# Altium schematic symbol library CircuitStudioSchematic.Lib.SchLib: 311 symbols (part 1 of 2)
Pins are listed as number, name and electrical type; pins without a type are passive.

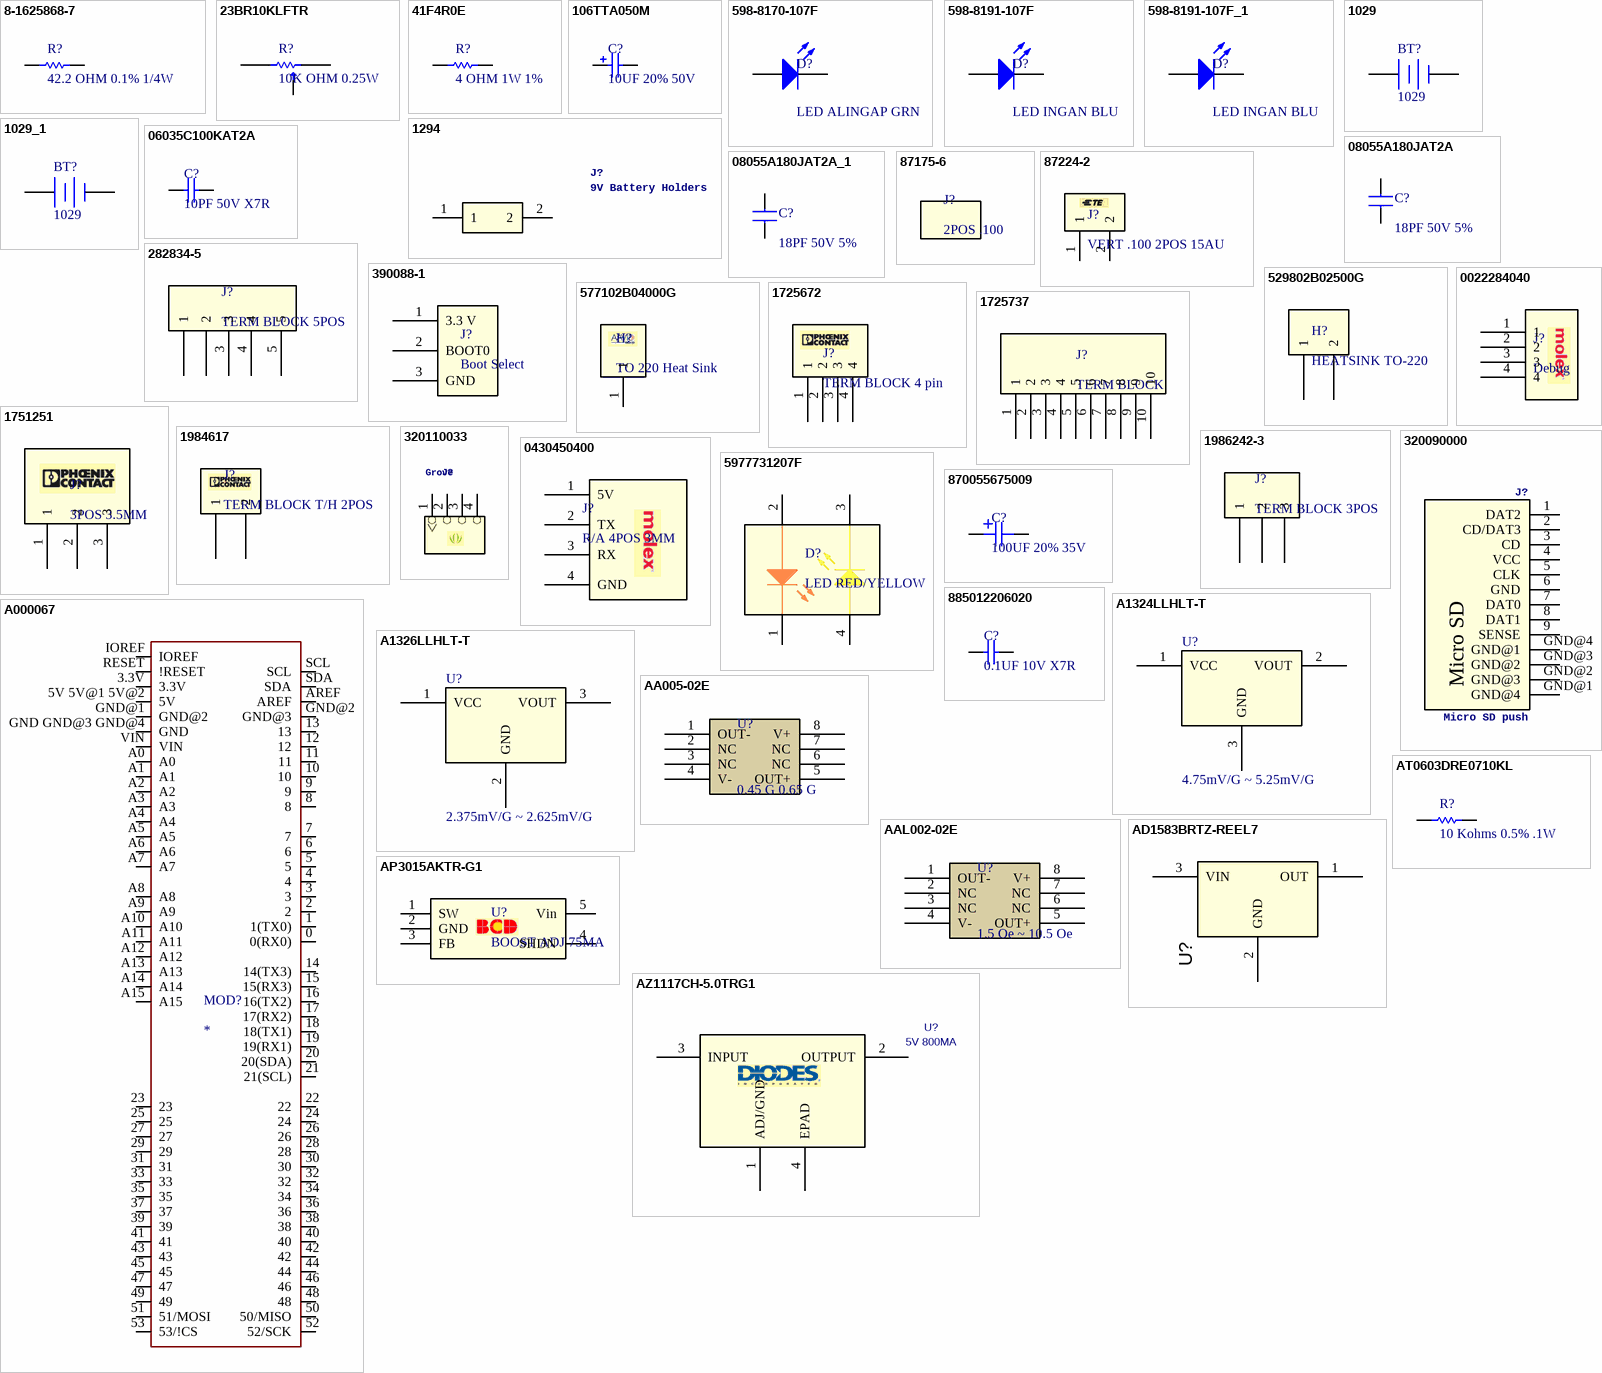
[diagram p0: symbols 8-1625868-7 to AZ1117CH-5.0TRG1]

## 8-1625868-7
designator R?, comment 42.2 OHM 0.1% 1/4W
RES SMD 42.2 OHM 0.1% 1/4W 0805; Part Number: 8-1625868-7; Manufacturer: TE Connectivity Passive Product
footprint R0805
pins: 1, 2

## 23BR10KLFTR
designator R?, comment 10K OHM 0.25W
TRIMMER 10K OHM 0.25W GW TOP ADJ; Manufacturer: TT Electronics/BI; Number: 23BR10KLFTR
footprint 5.00mm x 4.50mm x 2.70mm (Gull Wing Pot)
pins: 1, 2, 3

## 41F4R0E
designator R?, comment 4 OHM 1W 1%
RES 4 OHM 1W 1% AXIAL; Manufacturer: Ohmite; Number: 41F4R0E
footprint 3.20mm x 11.10mm resistor (3.20mm x 11.10mm Through Hole)
pins: 1, 2

## 106TTA050M
designator C?, comment 10UF 20% 50V
CAP ALUM 10UF 20% 50V AXIAL; Manufacturer: Illinois Capacitor; Number: 106TTA050M
footprint 5.00mm x 13.00mm electrolytic cap (5.00mm x 13.00mm AXIAL)
pins: 1 Anode, 2 Cathode

## 598-8170-107F
designator D?, comment LED ALINGAP GRN
LED ALINGAP GRN CLEAR 0805 SMD; Part Number: 598-8170-107F; Manufacturer: Dialight; HelpURL: C:\altium files\Datasheets\dialightdiodes.pdf
simulation model ZENER (Diode)
signal-integrity model D Zener
footprint D0805 (LED)
pins: 1 A, 2 K

## 598-8191-107F
designator D?, comment LED INGAN BLU
LED INGAN BLU WATER CLR 0805 SMD; Part Number: 598-8191-107F; Manufacturer: Dialight; HelpURL: C:\altium files\Datasheets\MDEI5980805.pdf
simulation model ZENER (Diode)
signal-integrity model D Zener
footprint Model Name (Footprint not found)
footprint Model Name (Footprint not found)
footprint D0805 (LED)
pins: 1 A, 2 K

## 598-8191-107F_1
designator D?, comment LED INGAN BLU
LED INGAN BLU WATER CLR 0805 SMD; Part Number: 598-8191-107F; Manufacturer: Dialight; HelpURL: C:\altium files\Datasheets\MDEI5980805.pdf
simulation model ZENER (Diode)
signal-integrity model D Zener
footprint Model Name (Footprint not found)
footprint Model Name (Footprint not found)
footprint D0805 (LED)
pins: 1 A, 2 K

## 1029
designator BT?
HOLDER BATTERY FOR LITHIUM 2/3 A; Manufacturer: Keystone Electronics; Battery Part Number: BR-2/3AGN; Battery Manufacturer: Panasonic - BSG; Holder Part Number: 1029LC; Part Number: 1029; Value: LITHIUM 2/3 A; HelpURL: C:\altium files\Datasheets\1029.pdf; Holder Manufacturer: Keystone Electronics
footprint 1092
pins: 1 +, 2 -

## 1029_1
designator BT?, comment 1029
HOLDER BATTERY FOR LITHIUM 2/3 A; Manufacturer: Keystone Electronics; Battery Part Number: BR-2/3AGN; Battery Manufacturer: Panasonic - BSG; Holder Part Number: 1029LC; Part Number: 1029; Value: LITHIUM 2/3 A; HelpURL: C:\altium files\Datasheets\1029.pdf; Holder Manufacturer: Keystone Electronics
footprint 1092
pins: 1 +, 2 -

## 1294
designator J?, comment 9V Battery Holders
BATTERY HOLDER 9V PC PIN; Manufacturer: Keystone Electronics; Number: 1294
footprint 1294
footprint 1294
footprint Model Name (Footprint not found)
footprint 1294
pins: 1, 2

## 06035C100KAT2A
designator C?, comment 10PF 50V X7R
CAP CER 10PF 50V X7R 0603; Manufacturer: AVX Corporation; Number: 06035C100KAT2A
footprint SMD-0603C
pins: 1, 2

## 08055A180JAT2A
designator C?, comment 18PF 50V 5%
CAP CER 18PF 50V 5% NP0 0805; Manufacturer: AVX Corporation; Part Number: 08055A180JAT2A; Value: 18PF 50V 5%
simulation model CAP
footprint C0805
pins: 1, 2

## 08055A180JAT2A_1
designator C?, comment 18PF 50V 5%
CAP CER 18PF 50V 5% NP0 0805; Manufacturer: AVX Corporation; Part Number: 08055A180JAT2A; Value: 18PF 50V 5%
simulation model CAP
footprint C0805
pins: 1, 2

## 87175-6
designator J?, comment 2POS .100
CONN HOUSING 2POS .100 LOCKING; Manufacturer: TE Connectivity AMP Connectors; Number: 87175-6
footprint CONN HOUSING 2POS (TE Locking housing)

## 87224-2
designator J?, comment VERT .100 2POS 15AU
CONN HEADER VERT .100 2POS 15AU; Manufacturer: TE Connectivity AMP Connectors; Number: 87224-2
footprint Jumper .100 2 pin (TE Conn Jumper)
pins: 1, 2

## 282834-5
designator J?, comment TERM BLOCK 5POS
TERM BLOCK 5POS SIDE ENT 2.54MM; Manufacturer: TE Connectivity AMP Connectors; Number: 282834-5
footprint TE Connectivity  2.54mm Pos5 (150V 16 10A)
pins: 1, 2, 3, 4, 5

## 390088-1
designator J?, comment Boot Select
CONN HEADER VERT 3POS 2.54MM; Part Number: 826936-3; Manufacturer: TE Connectivity AMP Connectors; Accessory Number: 390088-1; Accessory Manufactor: TE Connectivity AMP Connectors
footprint AMPMODU Mod II Con3
pins: 1 3.3 V, 2 BOOT0, 3 GND

## 529802B02500G
designator H?, comment HEATSINK TO-220
HEATSINK TO-220 W/PINS 1.5"TALL; Manufacturer: Aavid, Thermal Division of Boyd Corporation; Number: 529802B02500G
footprint HEATSINK TO-220 - duplicate (Drain Conection 10 W)
pins: 1, 2

## 577102B04000G
designator H?, comment TO 220 Heat Sink
HEATSINK TO-220 W/TAB .375"; Manufacturer: Aavid, Thermal Division of Boyd Corporation; Number: 577102B04000G
footprint HEATSINK TO-220 (HEATSINK TO-220 W/TAB .375")
pins: 1

## 1725672
designator J?, comment TERM BLOCK 4 pin
CONN TERM BLOCK 2.54MM 4POS; Manufacturer: Phoenix Contact; Number: 1725672
footprint Ter 25.4 4 pin (Phoenix)
pins: 1, 2, 3, 4

## 1725737
designator J?, comment TERM BLOCK
CONN TERM BLOCK 2.54MM 10POS; Manufacturer: Phoenix Contact; Number: 1725737
footprint CONN TERM BLOCK 2.54MM 10POS
pins: 1, 2, 3, 4, 5, 6, 7, 8, 9, 10

## 1751251
designator J?, comment 3POS 3.5MM
CONN TERM BLOCK 3POS 3.5MM; Manufacturer: Phoenix Contact; Number: 1751251
footprint Phoenix 3.5MM 3 pin (TERM BLOCK 3POS 3.5MM)
pins: 1, 2, 3

## 1984617
designator J?, comment TERM BLOCK T/H 2POS
CONN TERM BLOCK T/H 2POS 3.5MM; Manufacturer: Phoenix Contact; Number: 1984617
footprint Phoenix  3.5 Pos2 (160V 16 awg)
pins: 1, 2

## 1986242-3
designator J?, comment TERM BLOCK 3POS
TERM BLOCK PWR 3POS 15MM; Manufacturer: TE Connectivity AMP Connectors; Number: 1986242-3
footprint TE Connectivity  15MM Pos3 (150V 16 10A)
pins: 1, 2, 3

## 0022284040
designator J?, comment Debug
CONN HEADER VERT 4POS 2.54MM; Manufacturer: Molex; Number: 0022284040
footprint 4 pin 2.54 mm Breakaway (Molex Verticle 4 pin Debug header)
pins: 1, 2, 3, 4

## 320090000
designator J?, comment Micro SD push
MICRO SD; Manufacturer: Suntech; Number: 320090000; Alter Number: ST-TF-003A
footprint MICROSD_PP
pins: 1 DAT2, 2 CD/DAT3, 3 CD, 4 VCC, 5 CLK, 6 GND, 7 DAT0, 8 DAT1, 9 SENSE, GND@1 GND@4, GND@2 GND@3, GND@3 GND@2, GND@4 GND@1
text: Micro SD

## 320110033
designator J?, comment Grove
GROVE 2MM 4PIN CONN 10PACK; Manufacturer: Seeed Technology Co., Ltd; Number: 320110033; Alter Number: 110990030
footprint HW4-2.0 - Straight (Seed Grove 4 pin  Straight)
pins: 1, 2, 3, 4

## 0430450400
designator J?, comment R/A 4POS 3MM
CONN HEADER R/A 4POS 3MM; Part Number: 0430450400; Manufacturer: Molex; Mate Part Number: 0430250408
footprint R/A 4POS Molex (CONN HEADER R/A 4POS 3MM)
pins: 1 5V, 2 TX, 3 RX, 4 GND

## 5977731207F
designator D?, comment LED RED/YELLOW
LED RED/YELLOW CLEAR 4PLCC SMD; Part Number: 5977731207F; Manufacturer: Dialight
footprint PLCC-4
pins: 1 A1, 2 K1, 3 K2, 4 A2

## 870055675009
designator C?, comment 100UF 20% 35V
CAP ALUM POLY T/H; Manufacturer: Wurth Electronics Inc.; Number: 870055675009
footprint WCAP-PTHR Radial, Can (CAP ALUM POLY 100UF 20% 35V T/H)
pins: 1 Anode, 2 Cathode

## 885012206020
designator C?, comment 0.1UF 10V X7R
CAP CER 0.1UF 10V X7R 0603; Manufacturer: Wurth Electronics Inc.; Number: 885012206020
footprint SMD-0603C
pins: 1, 2

## A000067
designator MOD?
BOARD MCU MEGA2560; Manufacturer: Arduino; Number: A000067
footprint Mega 2560
pins: 0 0(RX0), 1 1(TX0), 2, 3, 3.3V, 4, 5, 5V 5V@1 5V@2 5V, 6, 7, 8, 9, 10, 11, 12, 13, 14 14(TX3), 15 15(RX3), 16 16(TX2), 17 17(RX2), 18 18(TX1), 19 19(RX1), 20 20(SDA), 21 21(SCL), 22, 23, 24, 25, 26, 27, 28, 29, 30, 31, 32, 33, 34, 35, 36, 37, 38, 39, 40, 41, 42, 43, 44, 45, 46, 47, 48, 49, 50 50/MISO, 51 51/MOSI, 52 52/SCK, 53 53/!CS, A0, A1, A2, A3, A4, A5, A6, A7, A8, A9, A10, A11, A12, A13, A14, A15, AREF, GND GND@3 GND@4 GND, GND@1 GND@2, GND@2 GND@3, IOREF, RESET !RESET, SCL, SDA, VIN

## A1324LLHLT-T
designator U?, comment 4.75mV/G ~ 5.25mV/G
IC SENSOR HALL EFFECT SOT23W; Part Number: A1324LLHLT-T; Manufacturer: Allegro Microsystems Inc; HelpURL: C:\altium files\Datasheets\A1324-5-6.pdf
footprint SOT-23
pins: 1 VCC, 2 VOUT, 3 GND

## A1326LLHLT-T
designator U?, comment 2.375mV/G ~ 2.625mV/G
IC SENSOR HALL EFFECT SOT23W; Part Number: A1326LLHLT-T; Manufacturer: Allegro Microsystems Inc; HelpURL: C:\altium files\Datasheets\A1324-5-6.pdf
footprint SOT-23
pins: 1 VCC, 2 GND, 3 VOUT

## AA005-02E
designator U?, comment 0.45 G 0.65 G
SENSORS MAGNETIC FIELD 8SOIC; Manufacturer: NVE Corp/Sensor Products; Part Number: AA005-02E; HelpURL: C:\altium files\Datasheets\AAL002.pdf
footprint SOIC-8 (.150 chasis)
pins: 1 OUT-, 2 NC, 3 NC, 4 V-, 5 OUT+, 6 NC, 7 NC, 8 V+

## AAL002-02E
designator U?, comment 1.5 Oe ~ 10.5 Oe
SENSORS MAGNETIC FIELD 8SOIC; Manufacturer: NVE Corp/Sensor Products; Part Number: AAL002-02E; HelpURL: C:\altium files\Datasheets\AAL002.pdf
footprint SOIC-8 (.150 chasis)
pins: 1 OUT-, 2 NC, 3 NC, 4 V-, 5 OUT+, 6 NC, 7 NC, 8 V+

## AD1583BRTZ-REEL7
designator U?, comment SERIES PREC 3V  (value not drawn)
IC VREF SERIES PREC 3V SOT-23-3; Part Number: AD1583BRTZ-REEL7; Manufacturer: Analog Devices Inc; HelpURL: C:\altium files\Datasheets\AD1582_1583_1584_1585.pdf
footprint SOT-23
pins: 1 OUT, 2 GND, 3 VIN

## AP3015AKTR-G1
designator U?, comment BOOST ADJ 75MA
IC REG BOOST ADJ 75MA SOT25; Manufacturer: Diodes Incorporated; Number: AP3015AKTR-G1
footprint SOT25 (sot 23-5 Diodes Inc)
pins: 1 SW, 2 GND, 3 FB, 4 SHDN, 5 Vin

## AT0603DRE0710KL
designator R?, comment 10 Kohms 0.5% .1W
Thin Film Resistors 10 Kohms 0.5% Tol. AEC-Q200; Manufacturer: Yageo; Number: AT0603DRE0710KL
footprint SMD-0603-RES
pins: 1, 2

## AZ1117CH-5.0TRG1
designator U?, comment 5V 800MA
IC REG LINEAR 5V 800MA SOT223; Manufacturer: Diodes Incorporated; Number: AZ1117CH-3.3TRG1
footprint SOT-223
pins: 1 ADJ/GND, 2 OUTPUT, 3 INPUT, 4 EPAD

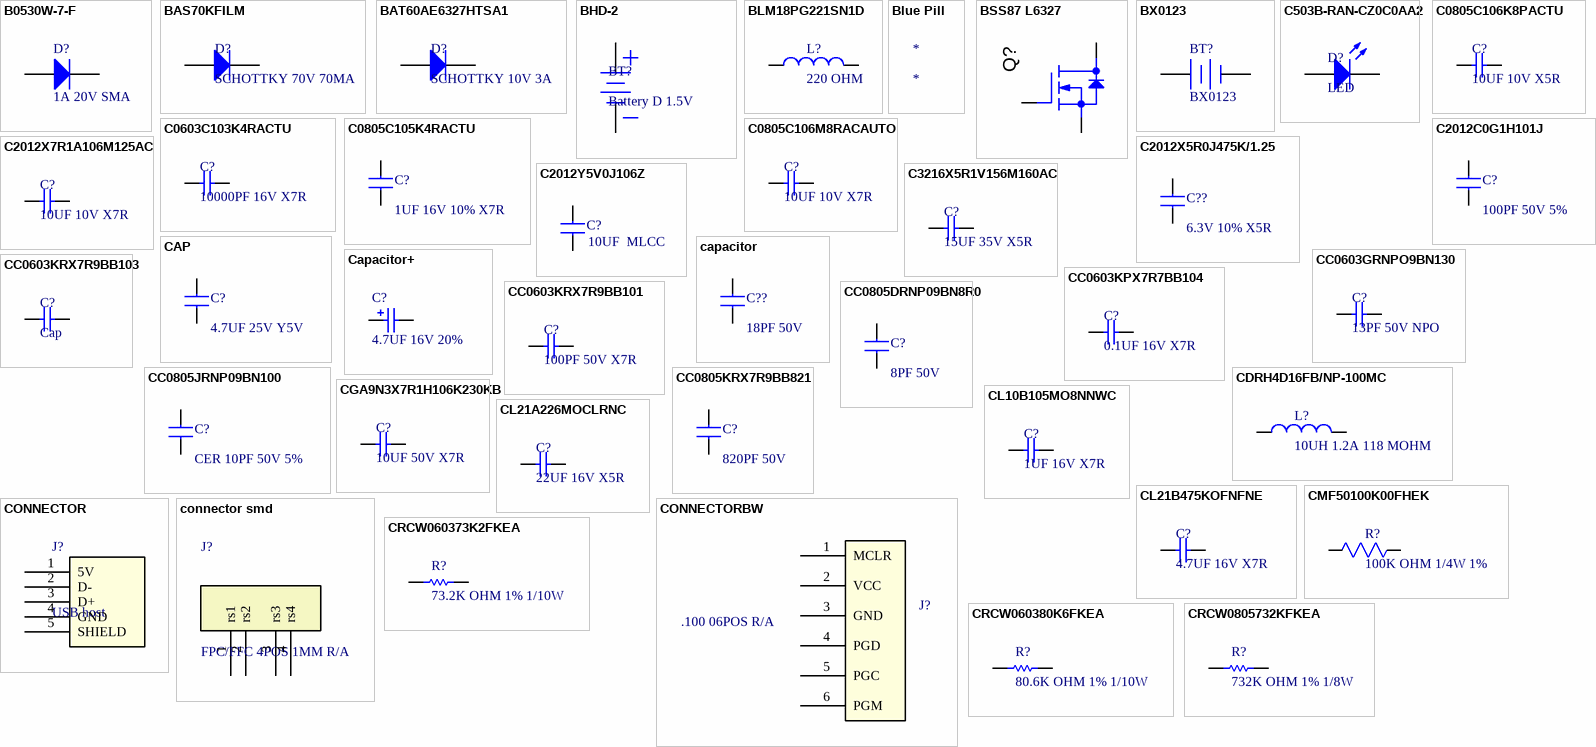
[diagram p1: symbols B0530W-7-F to CRCW0805732KFKEA]

## B0530W-7-F
designator D?, comment 1A 20V SMA
DIODE SCHOTTKY 1A 20V SMA; Part Number: B0530W-7-F; Manufacturer: Diodes Inc; HelpURL: C:\altium files\Datasheets\22190b.pdf
footprint SOD-123
pins: 1 A, 2 K

## BAS70KFILM
designator D?, comment SCHOTTKY 70V 70MA
DIODE SCHOTTKY 70V 70MA SOD523; Part Number: BAS70KFILM; Manufacturer: STMicroelectronics
footprint SOD523
pins: 1 A, 2 K

## BAT60AE6327HTSA1
designator D?, comment SCHOTTKY 10V 3A
DIODE SCHOTTKY 10V 3A SOD323-2; Part Number: BAT60AE6327HTSA1; Manufacturer: Infineon Technologies
footprint SOD323-2
pins: 1 A, 2 K

## BHD-2
designator BT?, comment Battery D 1.5V
BATTERY HOLDER D PC PIN; Manufacturer: MPD (Memory Protection Devices); Part Number: BHD-2
footprint BATT HOLDER D (MPD)
pins: 1 +, 2 -

## BLM18PG221SN1D
designator L?, comment 220 OHM
FERRITE BEAD 220 OHM 0603 1LN; Part Number: BLM18PG221SN1D; Manufacturer: Murata Electronics North America
footprint L0603
pins: 1, 2

## Blue Pill
designator *
footprint Blue Pill Import

## BSS87 L6327
designator Q?, comment 30V 2A  (value not drawn)
MOSFET N-CH 240V 260MA SOT-89; Part Number: BSS87 L6327; Manufacturer: Infineon Technologies; HelpURL: C:\altium files\Datasheets\BSS87_Rev1.3.pdf
footprint Sot 89
pins: 1 GATE, 2 DRAIN, 3 SOURCE

## BX0123
designator BT?
HOLDER BATT 1 CELL CR123A; Manufacturer: Bulgin; Part Number: BX0123; Value: CR123A; HelpURL: C:\altium files\Datasheets\BattHolders_2010.pdf
footprint BX0123
pins: 1 +, 2 -

## C503B-RAN-CZ0C0AA2
designator D?, comment LED
LED RED CLEAR 5MM ROUND T/H; Manufacturer: Cree Inc.; Number: C503B-RAN-CZ0C0AA2
footprint C503B-RAN 5mm LED (C503B-RAN Cree LED)
pins: 1 A, 2 K

## C0603C103K4RACTU
designator C?, comment 10000PF 16V X7R
CAP CER 10000PF 16V X7R 0603; Manufacturer: KEMET; Number: C0603C103K4RACTU
footprint SMD-0603C
pins: 1, 2

## C0805C105K4RACTU
designator C?, comment 1UF 16V 10% X7R
CAP CER 1UF 16V 10% X7R 0805; Manufacturer: Kemet; Part Number: C0805C105K4RACTU; Value: 1UF 16V 10% X7R
simulation model CAP
footprint C0805
pins: 1, 2

## C0805C106K8PACTU
designator C?, comment 10UF 10V X5R
CAP CER 10UF 10V X5R 0805; Part Number: C0805C106K8PACTU; Manufacturer: KEMET
footprint C0805
pins: 1, 2

## C0805C106M8RACAUTO
designator C?, comment 10UF 10V X7R
CAP CER 10UF 10V X7R 0805; Manufacturer: KEMET; Number: C0805C106M8RACAUTO
footprint SMD-0805C
pins: 1, 2

## C2012C0G1H101J
designator C?, comment 100PF 50V 5%
CAP CER 100PF 50V 5% NP0 0805; Manufacturer: TDK Corporation; Part Number: C2012C0G1H101J; Value: 100PF 50V 5%
simulation model CAP
footprint C0805
pins: 1, 2

## C2012X5R0J475K/1.25
designator C??, comment 6.3V 10% X5R
CAP CER 4.7UF 6.3V 10% X5R 0805; Manufacturer: Taiyo Yuden; Part Number: C2012X5R0J475K/1.25; Value: 6.3V 10% X5R
simulation model CAP
footprint C0805
pins: 1, 2

## C2012X7R1A106M125AC
designator C?, comment 10UF 10V X7R
CAP CER 10UF 10V X7R 0805; Manufacturer: TDK Corporation; Number: C2012X7R1A106M125AC
footprint SMD-0805C - tdk
pins: 1, 2

## C2012Y5V0J106Z
designator C?, comment 10UF  MLCC
CAP CER 10UF 6.3V Y5V 0805; Manufacturer: TDK Corporation; Part Number: C2012Y5V0J106Z; Value: 10UF  MLCC
simulation model CAP
footprint Model Name (Footprint not found)
footprint C0805
pins: 1, 2

## C3216X5R1V156M160AC
designator C?, comment 15UF 35V X5R
CAP CER 15UF 35V X5R 1206; Part Number: C3216X5R1V156M160AC; Manufacturer: TDK Corporation
footprint SMD-1206C
pins: 1, 2

## CAP
designator C?, comment 4.7UF 25V Y5V
CAP CER 4.7UF 25V Y5V 0805; Manufacturer: TDK Corporation; Part Number: C2012Y5V1E475Z; Value: 4.7UF 25V Y5V
simulation model CAP
footprint C0805
pins: 1, 2

## capacitor
designator C??, comment 18PF 50V
CAP CER 18PF 50V 5% NP0 0805; Manufacturer: Kemet; Part Number: C0805C180J5GACTU; Value: 18PF 50V
simulation model CAP
footprint C0805
pins: 1, 2

## Capacitor+
designator C?, comment 4.7UF 16V 20%
CAP ALUM 4.7UF 16V 20% SMD; Part Number: EEF-CD1C4R7R; Manufacturer: Panasonic - ECG; Value: 4.7UF 16V 20%
simulation model CAP (Capacitor)
footprint 2917 (7343 Metric)
pins: 1, 2
1 alternate drawing of the same symbol

## CC0603GRNPO9BN130
designator C?, comment 13PF 50V NPO
CAP CER 13PF 50V NPO 0603; Part Number: CC0603GRNPO9BN130; Manufacturer: Yageo
footprint C0603
pins: 1, 2

## CC0603KPX7R7BB104
designator C?, comment 0.1UF 16V X7R
CAP CER 0.1UF 16V X7R 0603; Part Number: CC0603KPX7R7BB104; Manufacturer: Yageo
footprint C0603
pins: 1, 2

## CC0603KRX7R9BB101
designator C?, comment 100PF 50V X7R
CAP CER 100PF 50V X7R 0603; Part Number: CC0603KRX7R9BB101; Manufacturer: Yageo
footprint C0603
pins: 1, 2

## CC0603KRX7R9BB103
designator C?, comment Cap
CAP CER 10000PF 50V X7R 0603; Part Number: CC0603KRX7R9BB103; Manufacturer: Yageo
footprint C0603
pins: 1, 2

## CC0805DRNP09BN8R0
designator C?, comment 8PF 50V
CAP CER 8PF 50V NP0 0805; Manufacturer: Yageo; Part Number: CC0805DRNP09BN8R0; Value: 8PF 50V
simulation model CAP
footprint C0805
pins: 1, 2

## CC0805JRNP09BN100
designator C?, comment CER 10PF 50V 5%
CAP CER 10PF 50V 5% NP0 0805; Manufacturer: Yageo; Part Number: CC0805JRNP09BN100; Value: CER 10PF 50V 5%
simulation model CAP
footprint C0805
pins: 1, 2

## CC0805KRX7R9BB821
designator C?, comment 820PF 50V
CAP CER 820PF 50V 10% X7R 0805; Manufacturer: Yageo; Part Number: CC0805KRX7R9BB821; Value: 820PF 50V
simulation model CAP
footprint C0805
pins: 1, 2

## CDRH4D16FB/NP-100MC
designator L?, comment 10UH 1.2A 118 MOHM
FIXED IND 10UH 1.2A 118 MOHM SMD; Manufacturer: Sumida America Components Inc.; Number: CDRH4D16FB/NP-100MC
footprint SMD CDRH
pins: 1, 2

## CGA9N3X7R1H106K230KB
designator C?, comment 10UF 50V X7R
CAP CER 10UF 50V X7R 2220; Manufacturer: TDK Corporation; Number: CGA9N3X7R1H106K230KB
footprint 2220 cap (TDK)
pins: 1, 2

## CL10B105MO8NNWC
designator C?, comment 1UF 16V X7R
CAP CER 1UF 16V X7R 0603; Manufacturer: Samsung Electro-Mechanics; Number: CL10B105MO8NNWC
footprint SMD-0603C
pins: 1, 2

## CL21A226MOCLRNC
designator C?, comment 22UF 16V X5R
CAP CER 22UF 16V X5R 0805; Manufacturer: Samsung Electro-Mechanics; Number: CL21A226MOCLRNC
footprint SMD-0805C
pins: 1, 2

## CL21B475KOFNFNE
designator C?, comment 4.7UF 16V X7R
CAP CER 4.7UF 16V X7R 0805; Manufacturer: Samsung Electro-Mechanics; Number: CL21B475KOFNFNE
footprint SMD-0805C
pins: 1, 2

## CMF50100K00FHEK
designator R?, comment 100K OHM 1/4W 1%
RES 100K OHM 1/4W 1% AXIAL; Manufacturer: Vishay Dale; Number: CMF50100K00FHEK
footprint 1.65mm x 3.81mm resistor (1/4W resistor through hole)
pins: 1, 2

## CONNECTOR
designator J?, comment USB host
CONN RCPT MICRO USB AB SMD R/A; Manufacturer: Hirose Electric Co Ltd; Part Number: ZX62-AB-5PA(11); HelpURL: C:\altium files\Datasheets\e24200011.pdf
footprint micro AB
pins: 1 5V, 2 D-, 3 D+, 4 GND, 5 SHIELD

## connector smd
designator J?, comment FPC/FFC 4POS 1MM R/A
CONN FPC/FFC 4POS 1MM R/A SMD; Part Number: SFW4R-3STE1LF; Manufacturer: FCI; HelpURL: C:\altium files\Datasheets\sfw34lf.pdf
footprint SFW4R-3STE1LF (TOUCH SCREEN CON)
pins: 1 rs1, 2 rs2, 3 rs3, 4 rs4

## CONNECTORBW
designator J?, comment .100 06POS R/A
CONN HEADR BRKWAY .100 06POS R/A; Manufacturer: TE Connectivity; Part Number: 9-146308-0-03; ORDER TOO: 5-102393-1; Value: .100 06POS R/A
pins: 1 MCLR, 2 VCC, 3 GND, 4 PGD, 5 PGC, 6 PGM

## CRCW060373K2FKEA
designator R?, comment 73.2K OHM 1% 1/10W
RES SMD 73.2K OHM 1% 1/10W 0603; Manufacturer: Vishay Dale; Number: CRCW060373K2FKEA
footprint SMD-0603-RES
pins: 1, 2

## CRCW060380K6FKEA
designator R?, comment 80.6K OHM 1% 1/10W
RES SMD 80.6K OHM 1% 1/10W 0603; Manufacturer: Vishay Dale; Number: CRCW060380K6FKEA
footprint SMD-0603-RES
pins: 1, 2

## CRCW0805732KFKEA
designator R?, comment 732K OHM 1% 1/8W
RES SMD 732K OHM 1% 1/8W 0805; Part Number: CRCW0805732KFKEA; Manufacturer: Vishay Dale
footprint R0805
pins: 1, 2

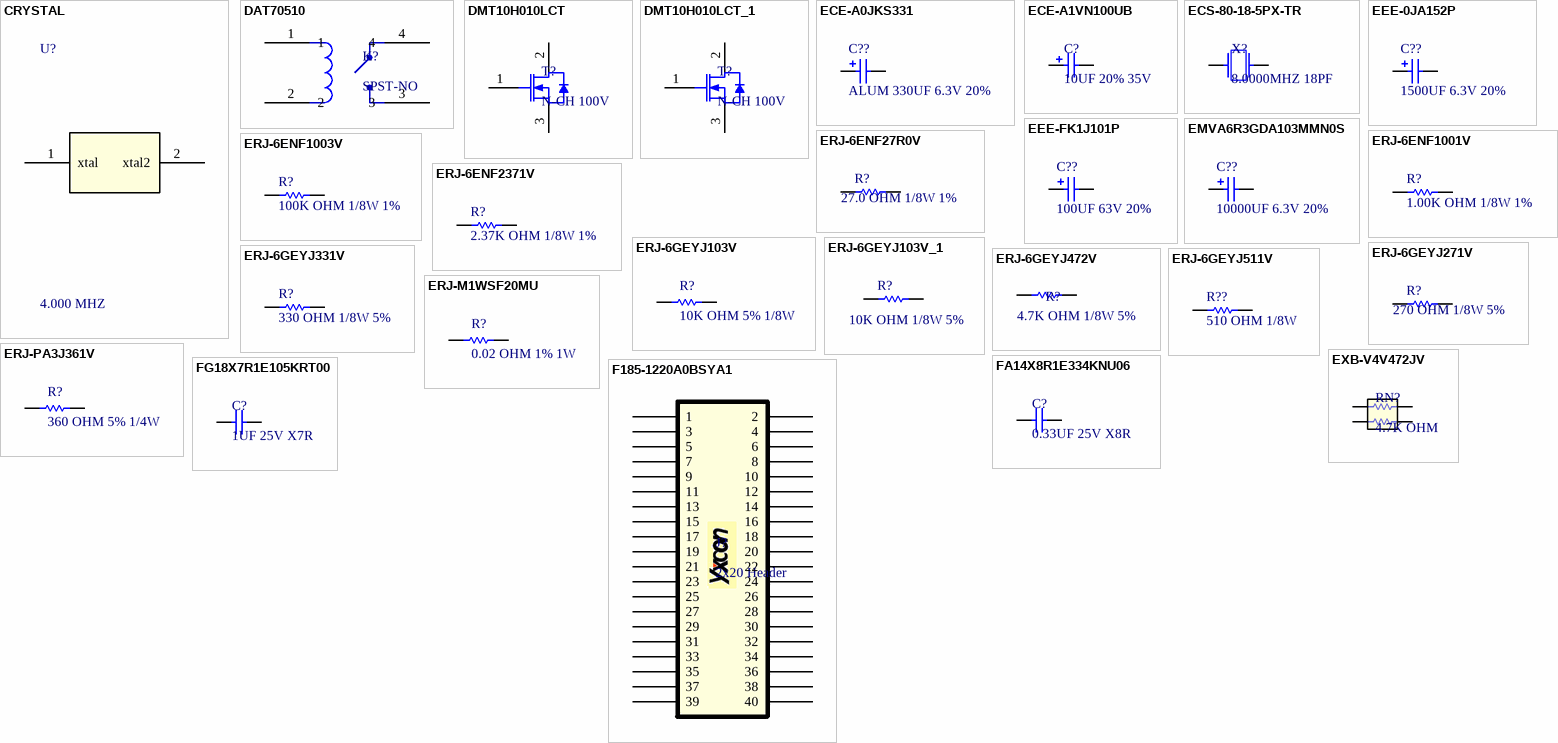
[diagram p2: symbols CRYSTAL to FG18X7R1E105KRT00]

## CRYSTAL
designator U?, comment 4.000 MHZ
CRYSTAL 4.000 MHZ 18PF SMD; Part Number: ABLS-4.000MHZ-B4-T; Manufacturer: Abracon Corporation; HelpURL: C:\altium files\Datasheets\abls.pdf
footprint SMD QUARTZ (0.449" L x 0.189" W)
pins: 1 xtal, 2 xtal2

## DAT70510
designator K?, comment SPST-NO
1 Form A SPST-NO 5V; Manufacturer: Cynergy 3; Number: DAT70510
footprint Model Name (Footprint not found)
footprint A Form 1 SPST-NO - Cynergy 3 (Reed Relay, 1 Form A SPST-NO)
pins: 1, 2, 3, 4

## DMT10H010LCT
designator T?, comment N-CH 100V
MOSFET N-CH 100V TO220AB; Manufacturer: Diodes Incorporated; Number: DMT10H010LCT
footprint Model Name (Footprint not found)
footprint TO-220AB (TO-220-3)
pins: 1 GATE, 2 DRAIN, 3 SOURCE

## DMT10H010LCT_1
designator T?, comment N-CH 100V
MOSFET N-CH 100V TO220AB; Manufacturer: Diodes Incorporated; Number: DMT10H010LCT
footprint Model Name (Footprint not found)
footprint TO-220AB (TO-220-3)
pins: 1 GATE, 2 DRAIN, 3 SOURCE

## ECE-A0JKS331
designator C??, comment ALUM 330UF 6.3V 20%
CAP ALUM 330UF 6.3V 20% RADIAL; Part Number: ECE-A0JKS331; Manufacturer: Panasonic - ECG; Value: ALUM 330UF 6.3V 20%
simulation model CAP (Capacitor)
signal-integrity model Cap Pol
footprint 5x8x2.5 cap
pins: 1, 2
1 alternate drawing of the same symbol

## ECE-A1VN100UB
designator C?, comment 10UF 20% 35V
CAP ALUM 10UF 20% 35V RADIAL; Manufacturer: Panasonic Electronic Components; Number: ECE-A1VN100UB
footprint Model Name (Footprint not found)
footprint 5.00mm x 12.00mm electrolytic cap (5.00mm x 12.00mm AXIAL)
pins: 1 Anode, 2 Cathode

## ECS-80-18-5PX-TR
designator X?, comment 8.0000MHZ 18PF
CRYSTAL 8.0000MHZ 18PF SMD; Part Number: ECS-80-18-5PX-TR; Manufacturer: ECS Inc.
footprint XTAL_ECS-80-18-5PX-TR
pins: 1, 2

## EEE-0JA152P
designator C??, comment 1500UF 6.3V 20%
CAP ALUM 1500UF 6.3V 20% SMD; Part Number: EEE-0JA152P; Manufacturer: Panasonic - ECG; Value: 1500UF 6.3V 20%
simulation model CAP (Capacitor)
signal-integrity model Cap Pol
footprint Panasonic EEE Size F
pins: 1, 2
1 alternate drawing of the same symbol

## EEE-FK1J101P
designator C??, comment 100UF 63V 20%
CAP ALUM 100UF 63V 20% SMD; Part Number: EEE-FK1J101P; Manufacturer: Panasonic - ECG; Value: 100UF 63V 20%
simulation model CAP (Capacitor)
signal-integrity model Cap Pol
footprint Panasonic EEE Size F
pins: 1, 2
1 alternate drawing of the same symbol

## EMVA6R3GDA103MMN0S
designator C??, comment 10000UF 6.3V 20%
CAP ALUM 10000UF 6.3V 20% SMD; Part Number: EMVA6R3GDA103MMN0S; Manufacturer: United Chemi-Con; HelpURL: C:\altium files\Datasheets\al-mva-e-111201.pdf; Value: 10000UF 6.3V 20%
simulation model CAP (Capacitor)
signal-integrity model Cap Pol
footprint MN0
pins: 1, 2
1 alternate drawing of the same symbol

## ERJ-6ENF27R0V
designator R?, comment 27.0 OHM 1/8W 1%
RES 27.0 OHM 1/8W 1% 0805 SMD; Part Number: ERJ-6ENF27R0V; Manufacturer: Panasonic - ECG; Value: 27.0 OHM 1/8W 1%
simulation model RESISTOR (Resistor)
signal-integrity model Res
footprint R0805
pins: 1, 2

## ERJ-6ENF1001V
designator R?, comment 1.00K OHM 1/8W 1%
RES 1.00K OHM 1/8W 1% 0805 SMD; Part Number: ERJ-6ENF1001V; Manufacturer: Panasonic - ECG; Value: 1.00K OHM 1/8W 1%
simulation model RESISTOR (Resistor)
signal-integrity model Res
footprint R0805
pins: 1, 2

## ERJ-6ENF1003V
designator R?, comment 100K OHM 1/8W 1%
RES 100K OHM 1/8W 1% 0805 SMD; Part Number: ERJ-6ENF1002V; Manufacturer: Panasonic - ECG; Value: 100K OHM 1/8W 1%
simulation model RESISTOR (Resistor)
signal-integrity model Res
footprint R0805
pins: 1, 2

## ERJ-6ENF2371V
designator R?, comment 2.37K OHM 1/8W 1%
RES 2.37K OHM 1/8W 1% 0805 SMD; Part Number: ERJ-6ENF2371V; Manufacturer: Panasonic - ECG; Value: 2.37K OHM 1/8W 1%
simulation model RESISTOR (Resistor)
signal-integrity model Res
footprint R0805
pins: 1, 2

## ERJ-6GEYJ103V
designator R?, comment 10K OHM 5% 1/8W
RES SMD 10K OHM 5% 1/8W 0805; Manufacturer: Panasonic Electronic Components; Number: ERJ-6GEYJ103V
footprint SMD-0805-RES
pins: 1, 2

## ERJ-6GEYJ103V_1
designator R?, comment value 10K OHM 1/8W 5%  (hidden comment: RES 10K OHM 1/8W 5%)
RES 10K OHM 1/8W 5% 0805 SMD; Part Number: ERJ-6GEYJ103V; Manufacturer: Panasonic - ECG; Siemens Part Number: PCR08048-001
simulation model RESISTOR (Resistor)
signal-integrity model Res
footprint R0805
pins: 1, 2

## ERJ-6GEYJ271V
designator R?, comment 270 OHM 1/8W 5%
Part Number: ERJ-6GEYJ271V; Manufacturer: Panasonic - ECG; Value: 270 OHM 1/8W 5%
simulation model RESISTOR (Resistor)
signal-integrity model Res
footprint R0805
pins: 1, 2

## ERJ-6GEYJ331V
designator R?, comment 330 OHM 1/8W 5%
RES 330 OHM 1/8W 5% 0805 SMD; Part Number: ERJ-6GEYJ331V; Manufacturer: Panasonic - ECG; Value: 330 OHM 1/8W 5%
simulation model RESISTOR (Resistor)
signal-integrity model Res
footprint R0805
pins: 1, 2

## ERJ-6GEYJ472V
designator R?, comment 4.7K OHM 1/8W 5%
RES 4.7K OHM 1/8W 5% 0805 SMD; Part Number: ERJ-6GEYJ472V; Manufacturer: Panasonic - ECG; Value: 4.7K OHM 1/8W 5%
simulation model RESISTOR (Resistor)
signal-integrity model Res
footprint Model Name (Footprint not found)
footprint R0805
pins: 1, 2

## ERJ-6GEYJ511V
designator R??, comment 510 OHM 1/8W
RES 510 OHM 1/8W 5% 0805 SMD; Part Number: ERJ-6GEYJ511V; Manufacturer: Panasonic - ECG; Value: 510 OHM 1/8W
simulation model RESISTOR (Resistor)
signal-integrity model Res
footprint R0805
pins: 1, 2

## ERJ-M1WSF20MU
designator R?, comment 0.02 OHM 1% 1W
RES 0.02 OHM 1% 1W 2512; Part Number: ERJ-M1WSF20MU; Manufacturer: Panasonic Electronic Components
footprint SMD-2512-RES
pins: 1, 2

## ERJ-PA3J361V
designator R?, comment 360 OHM 5% 1/4W
RES SMD 360 OHM 5% 1/4W 0603; Part Number: ERJ-PA3J361V; Manufacturer: Panasonic Electronic Components
footprint R0603
pins: 1, 2

## EXB-V4V472JV
designator RN?, comment 4.7K OHM
RES ARRAY 2 RES 4.7K OHM 0606; Manufacturer: Panasonic Electronic Components; Number: EXB-V4V472JV
footprint 0606 Cocave
pins: 1, 2, 3, 4

## F185-1220A0BSYA1
designator J?, comment 2x20 Header
2x20 Header 2.54 mm 5 mm x 8.5 mm; Manufacturer: Xycon; Number: F185-1220A0BSYA1
footprint 2.54mm 2x20 8.5mm 5 mm (Xycon F185 Header)
pins: 1, 2, 3, 4, 5, 6, 7, 8, 9, 10, 11, 12, 13, 14, 15, 16, 17, 18, 19, 20, 21, 22, 23, 24, 25, 26, 27, 28, 29, 30, 31, 32, 33, 34, 35, 36, 37, 38, 39, 40

## FA14X8R1E334KNU06
designator C?, comment 0.33UF 25V X8R
CAP CER 0.33UF 25V X8R RADIAL; Manufacturer: TDK Corporation; Number: FA14X8R1E334KNU06
footprint 4.5x5.5 mm Cap (FA14 MLCC TDK)
footprint 4.5x5.5mm_Capacitor (FA14 MLCC TDK)
pins: 1, 2

## FG18X7R1E105KRT00
designator C?, comment 1UF 25V X7R
CAP CER 1UF 25V X7R RADIAL; Manufacturer: TDK Corporation; Number: FG18X7R1E105KRT00
footprint 4.00mm x 2.50mm Capacitor (4.00mm x 2.50mm Through Hole)
pins: 1, 2

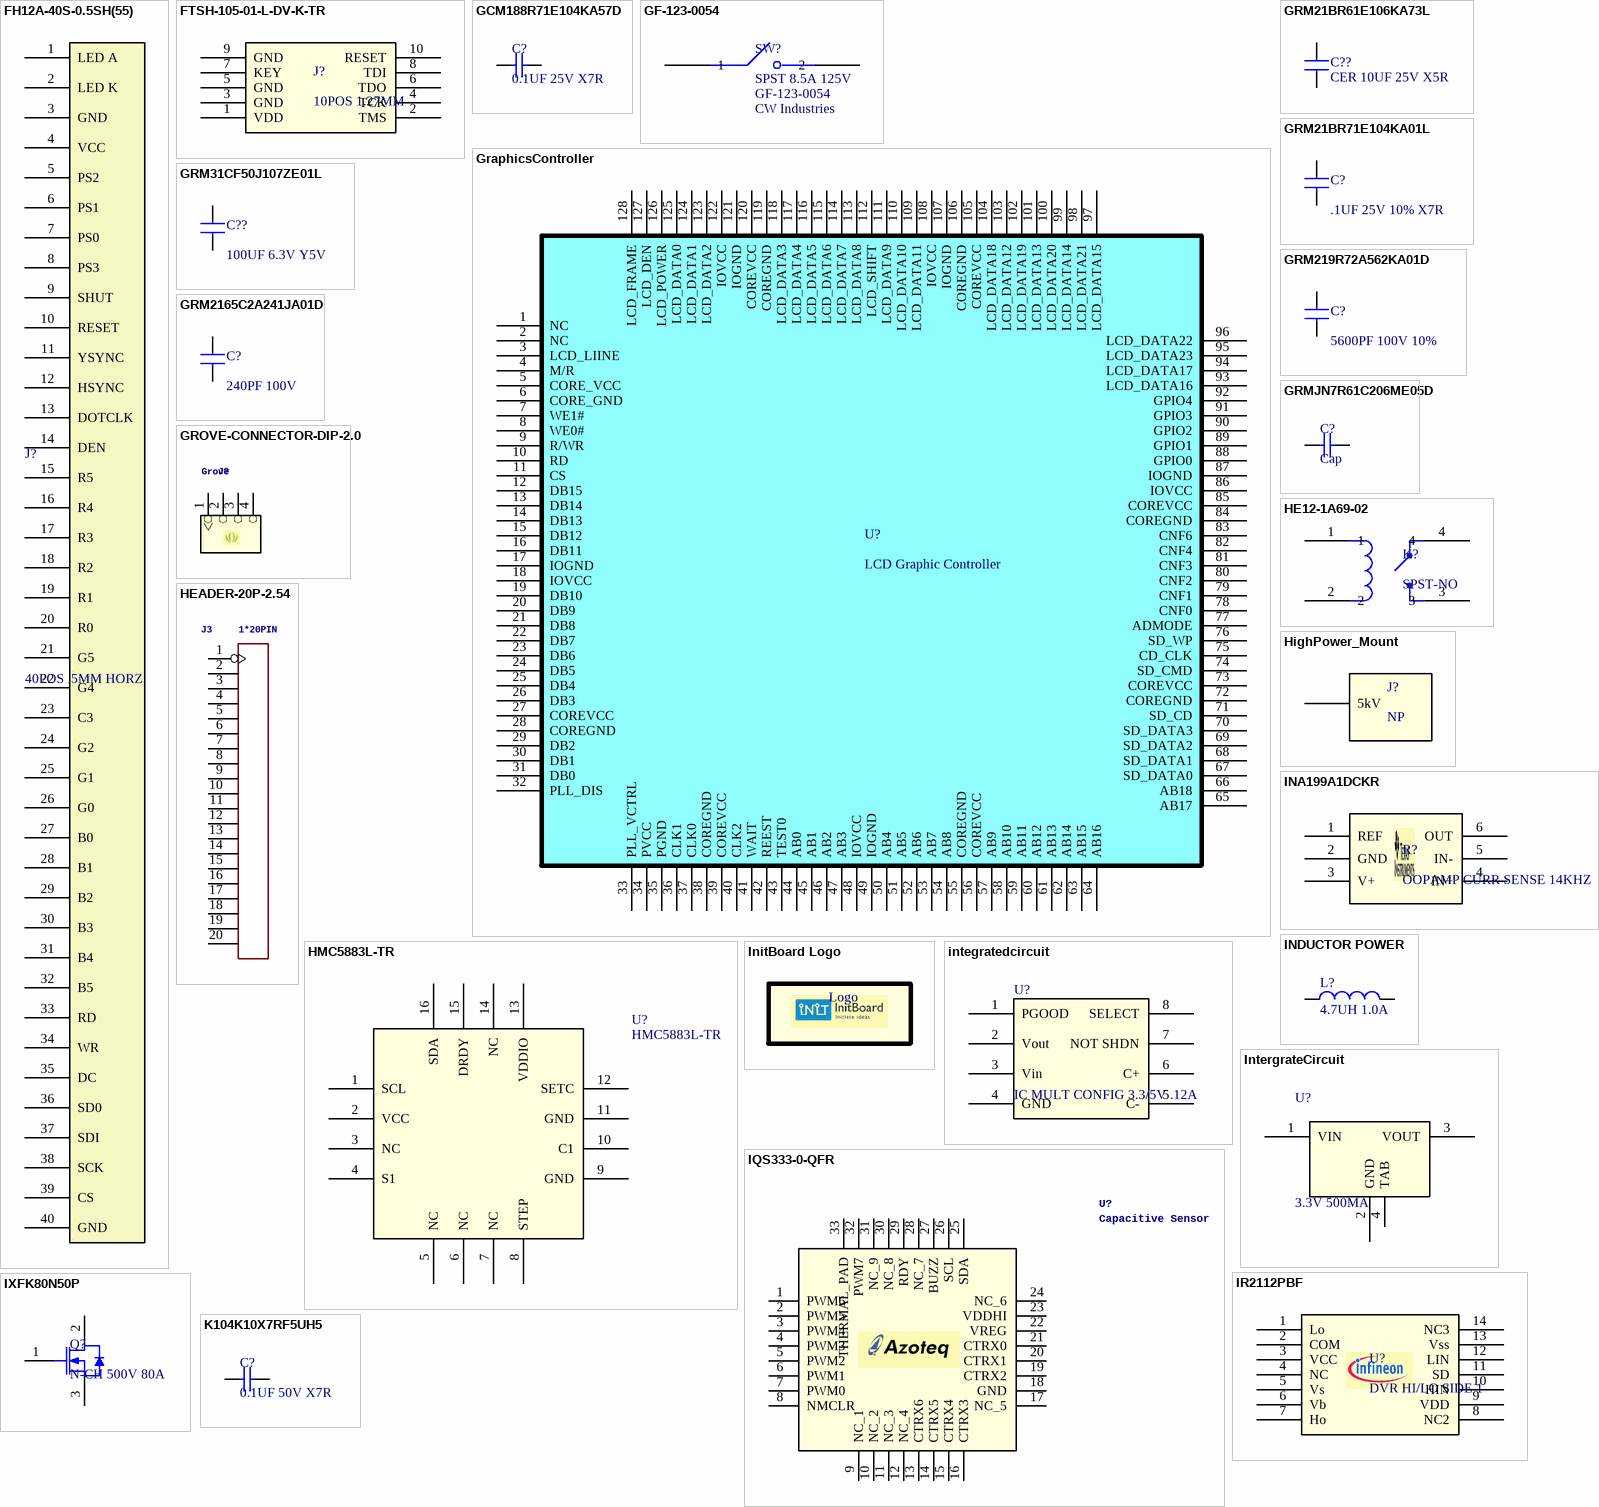
[diagram p3: symbols FH12A-40S-0.5SH(55) to K104K10X7RF5UH5]

## FH12A-40S-0.5SH(55)
designator J?, comment 40POS .5MM HORZ
CONN FPC/FFC 40POS .5MM HORZ SMD; Part Number: FH12A-40S-0.5SH(55); Manufacturer: Hirose Electric Co Ltd; HelpURL: C:\altium files\Datasheets\e58605370.pdf
footprint FH12A-40S-0.5SH(55) (LCD RIB CON)
pins: 1 LED A, 2 LED K, 3 GND, 4 VCC, 5 PS2, 6 PS1, 7 PS0, 8 PS3, 9 SHUT, 10 RESET, 11 YSYNC, 12 HSYNC, 13 DOTCLK, 14 DEN, 15 R5, 16 R4, 17 R3, 18 R2, 19 R1, 20 R0, 21 G5, 22 G4, 23 C3, 24 G2, 25 G1, 26 G0, 27 B0, 28 B1, 29 B2, 30 B3, 31 B4, 32 B5, 33 RD, 34 WR, 35 DC, 36 SD0, 37 SDI, 38 SCK, 39 CS, 40 GND

## FTSH-105-01-L-DV-K-TR
designator J?, comment 10POS 1.27MM
CONN HEADER SMD 10POS 1.27MM; Part Number: FTSH-105-01-L-DV-K-TR; Manufacturer: Samtec Inc.
footprint CON10_2X5_DUK_FT
pins: 1 VDD, 2 TMS, 3 GND, 4 TCK, 5 GND, 6 TDO, 7 KEY, 8 TDI, 9 GND, 10 RESET

## GCM188R71E104KA57D
designator C?, comment 0.1UF 25V X7R
CAP CER 0.1UF 25V X7R 0603; Manufacturer: Murata Electronics North America; Number: GCM188R71E104KA57D
footprint SMD-0603C
pins: 1, 2

## GF-123-0054
designator SW?, comment SPST 8.5A 125V  Part Number: GF-123-0054  Manufacturer: CW Industries
SWITCH SLIDE SPST 8.5A 125V
footprint GF-123-0054 (SWITCH SLIDE SPST 8.5A 125V)
pins: 1, 2

## GraphicsController
designator U?, comment LCD Graphic Controller
Part Number: SSD1926; Manufacturer: Solomon Systech; HelpURL: C:\altium files\Datasheets\SSD1926.pdf
footprint 128 lqfp
pins: 1 NC, 2 NC, 3 LCD_LIINE, 4 M/R, 5 CORE_VCC, 6 CORE_GND, 7 WE1#, 8 WE0#, 9 R/WR, 10 RD, 11 CS, 12 DB15, 13 DB14, 14 DB13, 15 DB12, 16 DB11, 17 IOGND, 18 IOVCC, 19 DB10, 20 DB9, 21 DB8, 22 DB7, 23 DB6, 24 DB5, 25 DB4, 26 DB3, 27 COREVCC, 28 COREGND, 29 DB2, 30 DB1, 31 DB0, 32 PLL_DIS, 33 PLL_VCTRL, 34 PVCC, 35 PGND, 36 CLK1, 37 CLK0, 38 COREGND, 39 COREVCC, 40 CLK2, 41 WAIT, 42 REEST, 43 TEST0, 44 AB0, 45 AB1, 46 AB2, 47 AB3, 48 IOVCC, 49 IOGND, 50 AB4, 51 AB5, 52 AB6, 53 AB7, 54 AB8, 55 COREGND, 56 COREVCC, 57 AB9, 58 AB10, 59 AB11, 60 AB12, 61 AB13, 62 AB14, 63 AB15, 64 AB16, 65 AB17, 66 AB18, 67 SD_DATA0, 68 SD_DATA1, 69 SD_DATA2, 70 SD_DATA3, 71 SD_CD, 72 COREGND, 73 COREVCC, 74 SD_CMD, 75 CD_CLK, 76 SD_WP, 77 ADMODE, 78 CNF0, 79 CNF1, 80 CNF2, 81 CNF3, 82 CNF4, 83 CNF6, 84 COREGND, 85 COREVCC, 86 IOVCC, 87 IOGND, 88 GPIO0, 89 GPIO1, 90 GPIO2, 91 GPIO3, 92 GPIO4, 93 LCD_DATA16, 94 LCD_DATA17, 95 LCD_DATA23, 96 LCD_DATA22, 97 LCD_DATA15, 98 LCD_DATA21, 99 LCD_DATA14, 100 LCD_DATA20, 101 LCD_DATA13, 102 LCD_DATA19, 103 LCD_DATA12, 104 LCD_DATA18, 105 COREVCC, 106 COREGND, 107 IOGND, 108 IOVCC, 109 LCD_DATA11, 110 LCD_DATA10, 111 LCD_DATA9, 112 LCD_SHIFT, 113 LCD_DATA8, 114 LCD_DATA7, 115 LCD_DATA6, 116 LCD_DATA5, 117 LCD_DATA4, 118 LCD_DATA3, 119 COREGND, 120 COREVCC, 121 IOGND, 122 IOVCC, 123 LCD_DATA2, 124 LCD_DATA1, 125 LCD_DATA0, 126 LCD_POWER, 127 LCD_DEN, 128 LCD_FRAME

## GRM21BR61E106KA73L
designator C??, comment value CER 10UF 25V X5R  (hidden comment: 10UF)
CAP CER 10UF 25V X5R 0805; Manufacturer: Murata Electronics North America; Part Number: GRM21BR61E106KA73L
simulation model CAP
footprint C0805
pins: 1, 2

## GRM21BR71E104KA01L
designator C?, comment value .1UF 25V 10% X7R  (hidden comment: 0.01uF)
CAP CER .1UF 25V 10% X7R 0805; Manufacturer: Murata Electronics North America; Part Number: GRM21BR71E104KA01L
simulation model CAP
footprint C0805
pins: 1, 2

## GRM31CF50J107ZE01L
designator C??, comment 100UF 6.3V Y5V
CAP CER 100UF 6.3V Y5V 1206; Manufacturer: Murata Electronics North America; Part Number: GRM31CF50J107ZE01L; Value: 100UF 6.3V Y5V
simulation model CAP
footprint 1206C
pins: 1, 2

## GRM219R72A562KA01D
designator C?, comment 5600PF 100V 10%
CAP CER 5600PF 100V 10% X7R 0805; Manufacturer: Murata Electronics North America; Part Number: GRM219R72A562KA01D; Value: 5600PF 100V 10%
simulation model CAP
footprint C0805
pins: 1, 2

## GRM2165C2A241JA01D
designator C?, comment 240PF 100V
CAP CER 240PF 100V 5% NP0 0805; Manufacturer: Yageo; Part Number: GRM2165C2A241JA01D; Value: 240PF 100V
simulation model CAP
footprint C0805
pins: 1, 2

## GRMJN7R61C206ME05D
designator C?, comment Cap
Multilayer Ceramic Capacitors MLCC - SMD/SMT; Manufacturer: Murata Electronics; Number: GRMJN7R61C206ME05D
pins: 1, 2

## GROVE-CONNECTOR-DIP-2.0
designator J?, comment Grove
GROVE 2MM 4PIN R/A CONN; Manufacturer: Seeed Technology Co., Ltd; Number: 110990037
footprint HW4-2.0
pins: 1, 2, 3, 4

## HE12-1A69-02
designator K?, comment SPST-NO
1 Form A SPST-NO 12V; Manufacturer: Standex Electronics; Number: HE12-1A69-02
footprint A Form 1 SPST-NO (Reed Relays Reed Relay, 1 Form A SPST-NO)
pins: 1, 2, 3, 4

## HEADER-20P-2.54
designator J3, comment 1*20PIN
GateName_1: G$1; SymbolName_1: HEADER-20P; DeviceName: -2.54; LibraryName: Connector-new; DeviceSetName: HEADER-20P
footprint H20-2.54
pins: 1 P$1, 2 P$2, 3 P$3, 4 P$4, 5 P$5, 6 P$6, 7 P$7, 8 P$8, 9 P$9, 10 P$10, 11 P$11, 12 P$12, 13 P$13, 14 P$14, 15 P$15, 16 P$16, 17 P$17, 18 P$18, 19 P$19, 20 P$20

## HighPower_Mount
designator J?, comment NP
Hole on Board; Number: NA; Manufacturer: NA
footprint 125 mil hole (This is used to mount hook up wire to the board)
pins: 1 5kV

## HMC5883L-TR
designator U?
IC COMPASS 3 AXIS I2C 16LCC SMD; Manufacturer: Honeywell Microelectronics & Precision Sensors; Part Number: HMC5883L-TR; HelpURL: C:\altium files\Datasheets\HMC5883L.pdf
footprint 16-PIN LPCC,
pins: 1 SCL, 2 VCC, 3 NC, 4 S1, 5 NC, 6 NC, 7 NC, 8 STEP, 9 GND, 10 C1, 11 GND, 12 SETC, 13 VDDIO, 14 NC, 15 DRDY, 16 SDA

## INA199A1DCKR
designator R?, comment OOPAMP CURR SENSE 14KHZ
IC OPAMP CURR SENSE 14KHZ SC70-6; Part Number: INA199A1DCKR; Manufacturer: Texas Instruments
footprint Model Name (Footprint not found)
footprint SC70-6
pins: 1 REF, 2 GND, 3 V+, 4 IN+, 5 IN-, 6 OUT

## INDUCTOR POWER
designator L?, comment 4.7UH 1.0A
INDUCTOR POWER 4.7UH 1.0A SMD; Manufacturer: TDK Corporation; Part Number: VLS3012T-4R7M1R0; HelpURL: C:\altium files\Datasheets\VLS3012.pdf; Value: 4.7UH 1.0A
footprint SMD Power Inductor
pins: 1, 2

## InitBoard Logo
designator Logo, comment None  (value not drawn)
footprint INIT LOGO

## integratedcircuit
designator U?, comment IC MULT CONFIG 3.3/5V .12A
IC MULT CONFIG 3.3/5V .12A 8MSOP; Part Number: MCP1253-33X50I/MS; Manufacturer: Microchip; HelpURL: C:\altium files\Datasheets\21752a.pdf
footprint MSOP8
pins: 1 PGOOD, 2 Vout, 3 Vin, 4 GND, 5 C-, 6 C+, 7 NOT SHDN, 8 SELECT

## IntergrateCircuit
designator U?, comment 3.3V 500MA
IC CMOS LDO 3.3V 500MA SOT223-3; Part Number: TC1262-3.3VDBTR; Manufacturer: Microchip Technology; HelpURL: C:\altium files\Datasheets\21373b.pdf
footprint SOT-223
pins: 1 VIN, 2 GND, 3 VOUT, 4 TAB

## IQS333-0-QFR
designator U?, comment Capacitive Sensor
Capacitive Touch Sensors 9 Ch Touch/Proximity Scroll Wheel/Slider; Part Number: IQS333-0-QFR; Manufacturer: Azoteq
footprint QFN50P500X500X95-33N
pins: 1 PWM6, 2 PWM5, 3 PWM4 (oc), 4 PWM3, 5 PWM2, 6 PWM1, 7 PWM0, 8 NMCLR, 9 NC_1, 10 NC_2, 11 NC_3, 12 NC_4, 13 CTRX6, 14 CTRX5, 15 CTRX4, 16 CTRX3, 17 NC_5, 18 GND, 19 CTRX2, 20 CTRX1, 21 CTRX0, 22 VREG, 23 VDDHI, 24 NC_6, 25 SDA, 26 SCL, 27 BUZZ, 28 NC_7, 29 RDY, 30 NC_8, 31 NC_9, 32 PWM7, 33 THERMAL_PAD

## IR2112PBF
designator U?, comment DVR HI/LO SIDE 1
IC MOSFET DVR HI/LO SIDE 14-DIP; Manufacturer: Infineon Technologies; Number: IR2112PBF
footprint DIP14 .300 W .100 L
pins: 1 Lo, 2 COM, 3 VCC, 4 NC, 5 Vs, 6 Vb, 7 Ho, 8 NC2, 9 VDD, 10 HIN, 11 SD, 12 LIN, 13 Vss, 14 NC3

## IXFK80N50P
designator Q?, comment N-CH 500V 80A
MOSFET N-CH 500V 80A TO-264; Manufacturer: IXYS; Number: IXFK80N50P
footprint TO-264-3 (TO-264 (IXFK) Outline)
pins: 1 GATE, 2 DRAIN, 3 SOURCE

## K104K10X7RF5UH5
designator C?, comment 0.1UF 50V X7R
CAP CER 0.1UF 50V X7R RADIAL; Manufacturer: Vishay BC Components; Number: K104K10X7RF5UH5
footprint 3.60mm x 2.30mm radial (W (3.60mm x 2.30mm) 5.00mm)
pins: 1, 2

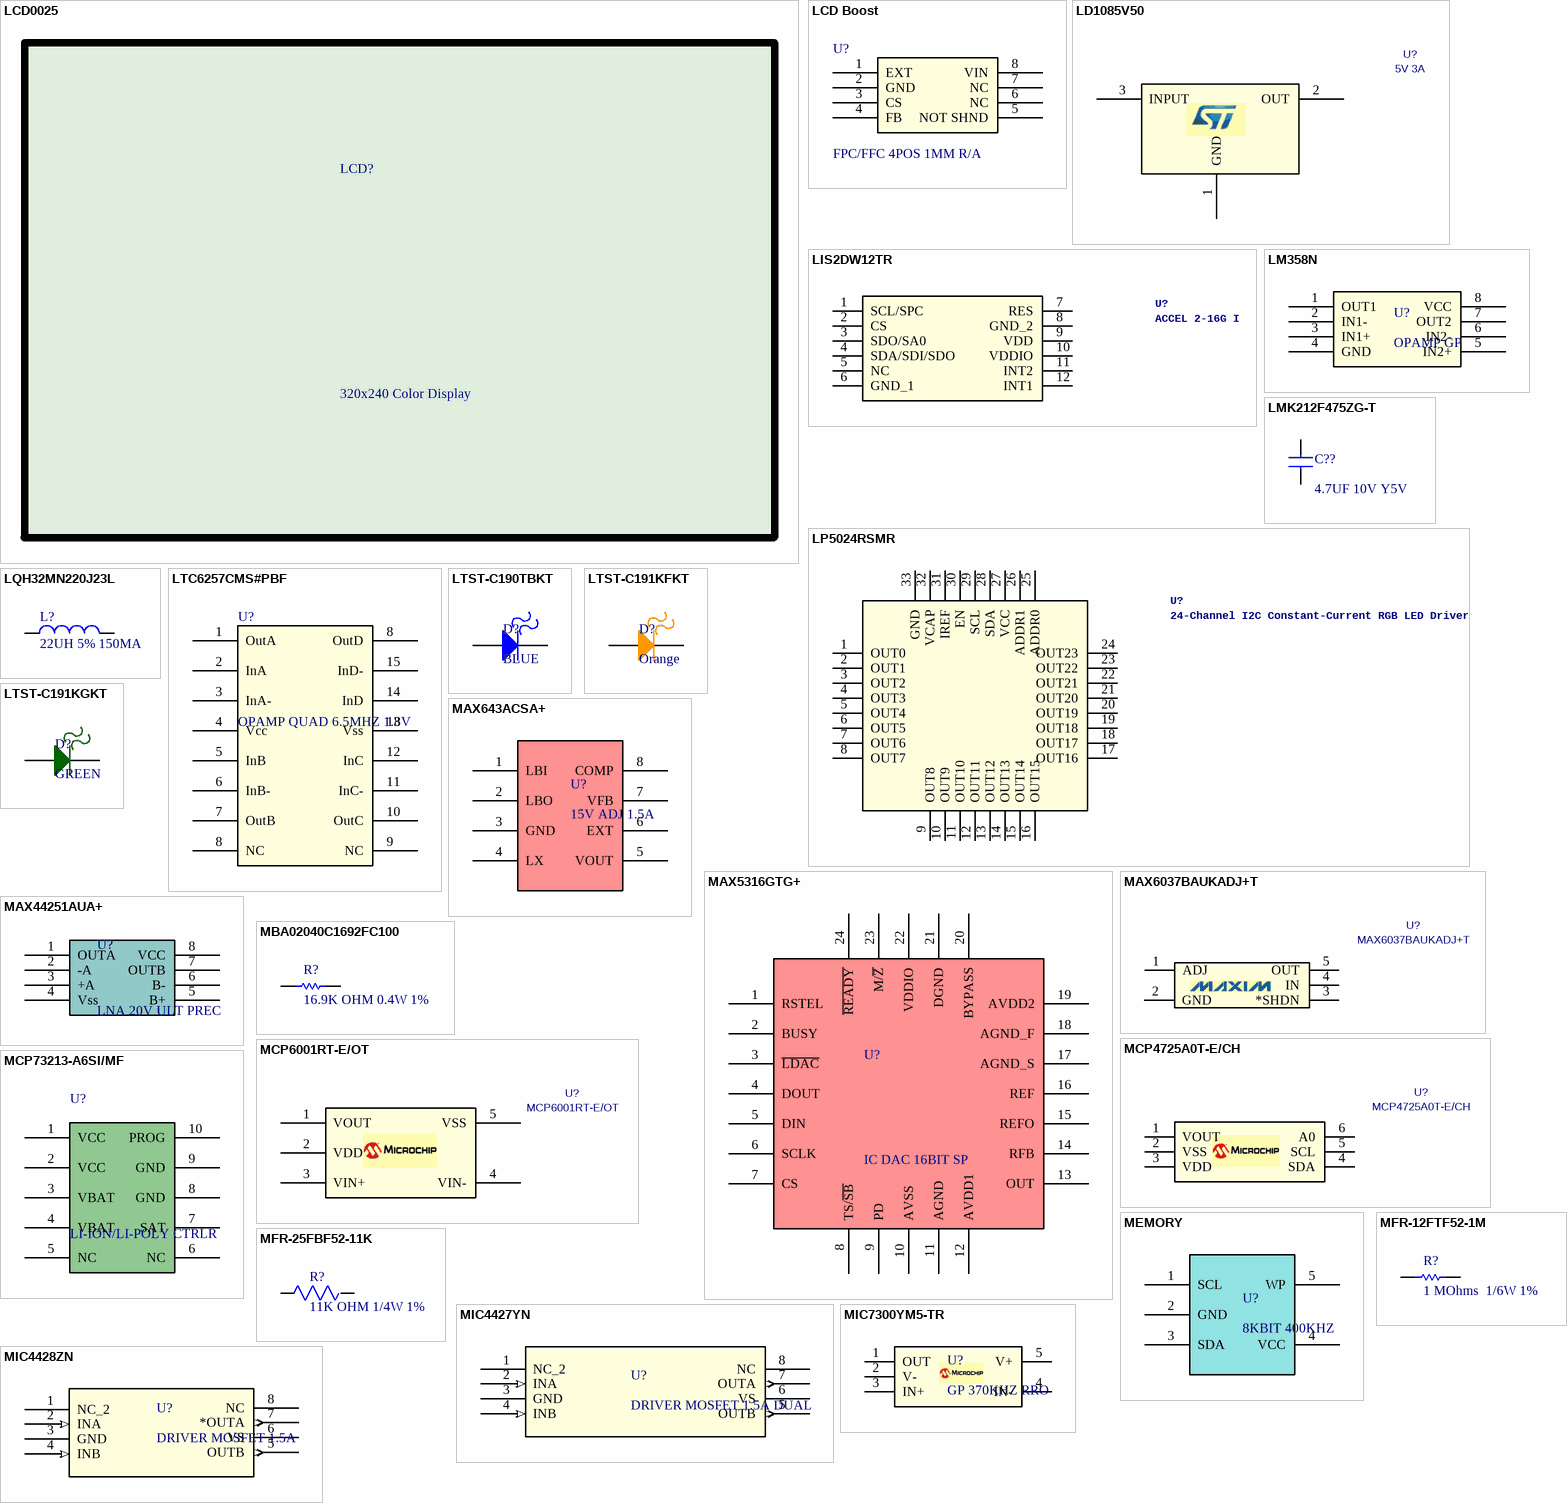
[diagram p4: symbols LCD0025 to MIC7300YM5-TR]

## LCD0025
designator LCD?, comment 320x240 Color Display
Truly TFT 3.2 320x240 Color Display with 4-wire Touch Panel; Manufacturer: TRULY SEMICONDUCTOR; Part Number: TFT2N0369-E; microdirect: LCD0025; HelpURL: C:\altium files\Datasheets\3.2in 320x240 TFT2N0369-E Spec with TP.pdf

## LCD Boost
designator U?, comment FPC/FFC 4POS 1MM R/A
IC CONTROLLER BOOST 2V 8MSOP; Part Number: MCP1650R-E/MS; Manufacturer: Microchip Technology; HelpURL: C:\altium files\Datasheets\21876a.pdf
footprint MSOP8
pins: 1 EXT, 2 GND, 3 CS, 4 FB, 5 NOT SHND, 6 NC, 7 NC, 8 VIN

## LD1085V50
designator U?, comment 5V 3A
IC REG LINEAR 5V 3A TO220AB; Manufacturer: STMicroelectronics; Number: LD1085V50
footprint TO-220 - PCB HEATSINK
pins: 1 GND, 2 OUT, 3 INPUT

## LIS2DW12TR
designator U?, comment ACCEL 2-16G I
ACCEL 2-16G I2C/SPI 12LGA; Manufacturer: STMicroelectronics; Part Number: LIS2DW12TR
footprint LGA-12
pins: 1 SCL/SPC, 2 CS, 3 SDO/SA0, 4 SDA/SDI/SDO, 5 NC, 6 GND_1, 7 RES, 8 GND_2, 9 VDD, 10 VDDIO, 11 INT2, 12 INT1

## LM358N
designator U?, comment OPAMP GP
IC OPAMP GP 8DIP; Manufacturer: ON Semiconductor; Number: LM358N
footprint Model Name (Footprint not found)
footprint 8-DIP (8-DIP (0.300", 7.62mm))
pins: 1 OUT1, 2 IN1-, 3 IN1+, 4 GND, 5 IN2+, 6 IN2-, 7 OUT2, 8 VCC

## LMK212F475ZG-T
designator C??, comment 4.7UF 10V Y5V
CAP CER 4.7UF 10V Y5V 0805; Manufacturer: Taiyo Yuden; Part Number: LMK212F475ZG-T; Value: 4.7UF 10V Y5V
simulation model CAP
footprint C0805
pins: 1, 2

## LP5024RSMR
designator U?, comment 24-Channel I2C Constant-Current RGB LED Driver
LED DRIVER; Manufacturer: Texas Instruments; Part Number: LP5024RSMR
footprint QFN40P400X400X100-33N
pins: 1 OUT0, 2 OUT1, 3 OUT2, 4 OUT3, 5 OUT4, 6 OUT5, 7 OUT6, 8 OUT7, 9 OUT8, 10 OUT9, 11 OUT10, 12 OUT11, 13 OUT12, 14 OUT13, 15 OUT14, 16 OUT15, 17 OUT16, 18 OUT17, 19 OUT18, 20 OUT19, 21 OUT20, 22 OUT21, 23 OUT22, 24 OUT23, 25 ADDR0, 26 ADDR1, 27 VCC (power), 28 SDA, 29 SCL, 30 EN, 31 IREF, 32 VCAP (power), 33 GND (power)

## LQH32MN220J23L
designator L?, comment value 22UH 5% 150MA  (hidden comment: 4.7UH 1.0A)
INDUCTOR POWER 4.7UH 1.0A SMD; Manufacturer: Murata Electronics North America; Part Number: LQH32MN220J23L; HelpURL: C:\altium files\Datasheets\L0075S0090LQH32M.pdf
footprint 1206L
pins: 1, 2

## LTC6257CMS#PBF
designator U?, comment OPAMP QUAD 6.5MHZ 1.8V
IC OPAMP QUAD 6.5MHZ 1.8V 16MSOP; Part Number: LTC6257CMS#PBF; Manufacturer: Linear Technology; HelpURL: C:\altium files\Datasheets\625567fb.pdf
footprint MSOP16
pins: 1 OutA, 2 InA, 3 InA-, 4 Vcc, 5 InB, 6 InB-, 7 OutB, 8 NC, 8 OutD, 9 NC, 10 OutC, 11 InC-, 12 InC, 13 Vss, 14 InD, 15 InD-

## LTST-C190TBKT
designator D?, comment BLUE
LED BLUE CLEAR CHIP SMD; Manufacturer: Lite-On Inc.; Number: LTST-C190TBKT
footprint 0603 LED BLUE
pins: 1 Anode, 2 Cathode

## LTST-C191KFKT
designator D?, comment Orange
LED ORANGE CLEAR SMD; Manufacturer: Lite-On Inc.; Number: LTST-C191KFKT
footprint 0603 LED Green
pins: 1 Anode, 2 Cathode

## LTST-C191KGKT
designator D?, comment GREEN
LED GREEN CLEAR SMD; Manufacturer: Lite-On Inc.; Number: LTST-C191KGKT
footprint 0603 LED Green
pins: 1 Anode, 2 Cathode

## MAX643ACSA+
designator U?, comment 15V ADJ 1.5A
IC BOOST 15V ADJ 1.5A 8SOIC; Part Number: MAX643ACSA+; Manufacturer: Maxim Integrated Products; HelpURL: C:\altium files\Datasheets\MAX641-MAX643.pdf
footprint SOIC-8 (.150 chasis)
pins: 1 LBI, 2 LBO, 3 GND, 4 LX, 5 VOUT, 6 EXT, 7 VFB, 8 COMP

## MAX5316GTG+
designator U?, comment IC DAC 16BIT SP
IC DAC 16BIT SPI 24TQFN; Part Number: MAX5316GTG+; Manufacturer: Maxim Integrated Products; HelpURL: C:\altium files\Datasheets\MAX5316.pdf
footprint TQFN24 7x5
pins: 1 RSTEL, 2 BUSY, 3 ~{LDAC}, 4 DOUT, 5 DIN, 6 SCLK, 7 CS, 8 TS/~{SB}, 9 PD, 10 AVSS, 11 AGND, 12 AVDD1, 13 OUT, 14 RFB, 15 REFO, 16 REF, 17 AGND_S, 18 AGND_F, 19 AVDD2, 20 BYPASS, 21 DGND, 22 VDDIO, 23 M/~{Z}, 24 ~{READY}

## MAX6037BAUKADJ+T
designator U?
IC VREF SERIES ADJ SOT23-5; Manufacturer: Maxim Integrated Products; Number: MAX6037BAUKADJ+T
footprint SOT-23-5 Max (SOT-753)
pins: 1 ADJ, 2 GND (power), 3 *SHDN, 4 IN, 5 OUT

## MAX44251AUA+
designator U?, comment LNA 20V ULT PREC
IC AMP LNA 20V ULT PREC UMAX; Manufacturer: Maxim Integrated Products; Part Number: MAX44251AUA+; HelpURL: C:\altium files\Datasheets\MAX44251-MAX44252.pdf
footprint SOIC-8 (.150 chasis)
pins: 1 OUTA, 2 -A, 3 +A, 4 Vss, 5 B+, 6 B-, 7 OUTB, 8 VCC

## MBA02040C1692FC100
designator R?, comment 16.9K OHM 0.4W 1%
RES 16.9K OHM 0.4W 1% AXIAL; Manufacturer: Vishay BC Components; Number: MBA02040C1692FC100
footprint 1.60mm x 3.60mm .4 W (1.60mm x 3.60mm Through Hole)
pins: 1, 2

## MCP4725A0T-E/CH
designator U?
IC DAC 12BIT W/I2C SOT23A-6; Manufacturer: Microchip Technology; Number: MCP4725A0T-E/CH
footprint SOT-23-6_MC
pins: 1 VOUT, 2 VSS, 3 VDD, 4 SDA, 5 SCL, 6 A0

## MCP6001RT-E/OT
designator U?
IC OPAMP GP 1MHZ RRO SOT23-5; Manufacturer: Microchip; Number: MCP6001RT-E/OT
footprint SOT-23-5_MC
pins: 1 VOUT, 2 VDD, 3 VIN+, 4 VIN-, 5 VSS

## MCP73213-A6SI/MF
designator U?, comment LI-ION/LI-POLY CTRLR
IC LI-ION/LI-POLY CTRLR 10-DFN; Part Number: MCP73213-A6SI/MF; Manufacturer: Microchip Technology; HelpURL: C:\altium files\Datasheets\22190b.pdf
footprint Model Name (Footprint not found)
footprint DFN10
pins: 1 VCC, 2 VCC, 3 VBAT, 4 VBAT, 5 NC, 6 NC, 7 SAT, 8 GND, 9 GND, 10 PROG

## MEMORY
designator U?, comment 8KBIT 400KHZ
IC EEPROM 8KBIT 400KHZ SOT23-5; Part Number: 24LC08BT-I/OT; Manufacturer: Microchip Technology; HelpURL: C:\altium files\Datasheets\21710J.pdf
footprint SOT 23-5
pins: 1 SCL, 2 GND, 3 SDA, 4 VCC, 5 WP

## MFR-12FTF52-1M
designator R?, comment 1 MOhms  1/6W 1%
RES MF 1 MOhms  1/6W 1% AXIAL; Manufacturer: Yageo; Number: MFR-12FTF52-1M
footprint 1.90mm x 3.40mm 1/6 resistor (1.90mm x 3.40mm Through Hole)
pins: 1, 2

## MFR-25FBF52-11K
designator R?, comment 11K OHM 1/4W 1%
RES 11K OHM 1/4W 1% AXIAL; Manufacturer: Yageo; Number: MFR-25FBF52-11K
footprint 2.40mm x 6.30mm (1/4W resistor through hole)
pins: 1, 2

## MIC4427YN
designator U?, comment DRIVER MOSFET 1.5A DUAL
IC DRIVER MOSFET 1.5A DUAL 8-DIP; Manufacturer: Microchip Technology; Number: MIC4427YN
footprint 8DIP (8-PDIP)
pins: 1 NC_2, 2 INA (in), 3 GND (power), 4 INB (in), 5 OUTB (out), 6 VS (power), 7 OUTA (out), 8 NC

## MIC4428ZN
designator U?, comment DRIVER MOSFET 1.5A
IC DRIVER MOSFET 1.5A DUAL 8-DIP; Manufacturer: Microchip Technology; Number: MIC4428ZN
footprint 8-DIP (8-DIP (0.300", 7.62mm))
pins: 1 NC_2, 2 INA (in), 3 GND (power), 4 INB (in), 5 OUTB (out), 6 VS (power), 7 *OUTA (out), 8 NC

## MIC7300YM5-TR
designator U?, comment GP 370KHZ RRO
IC OPAMP GP 370KHZ RRO SOT23-5; Manufacturer: Microchip Technology; Number: MIC7300YM5-TR
footprint SOT25 (sot 23-5 Diodes Inc)
pins: 1 OUT, 2 V-, 3 IN+, 4 IN-, 5 V+

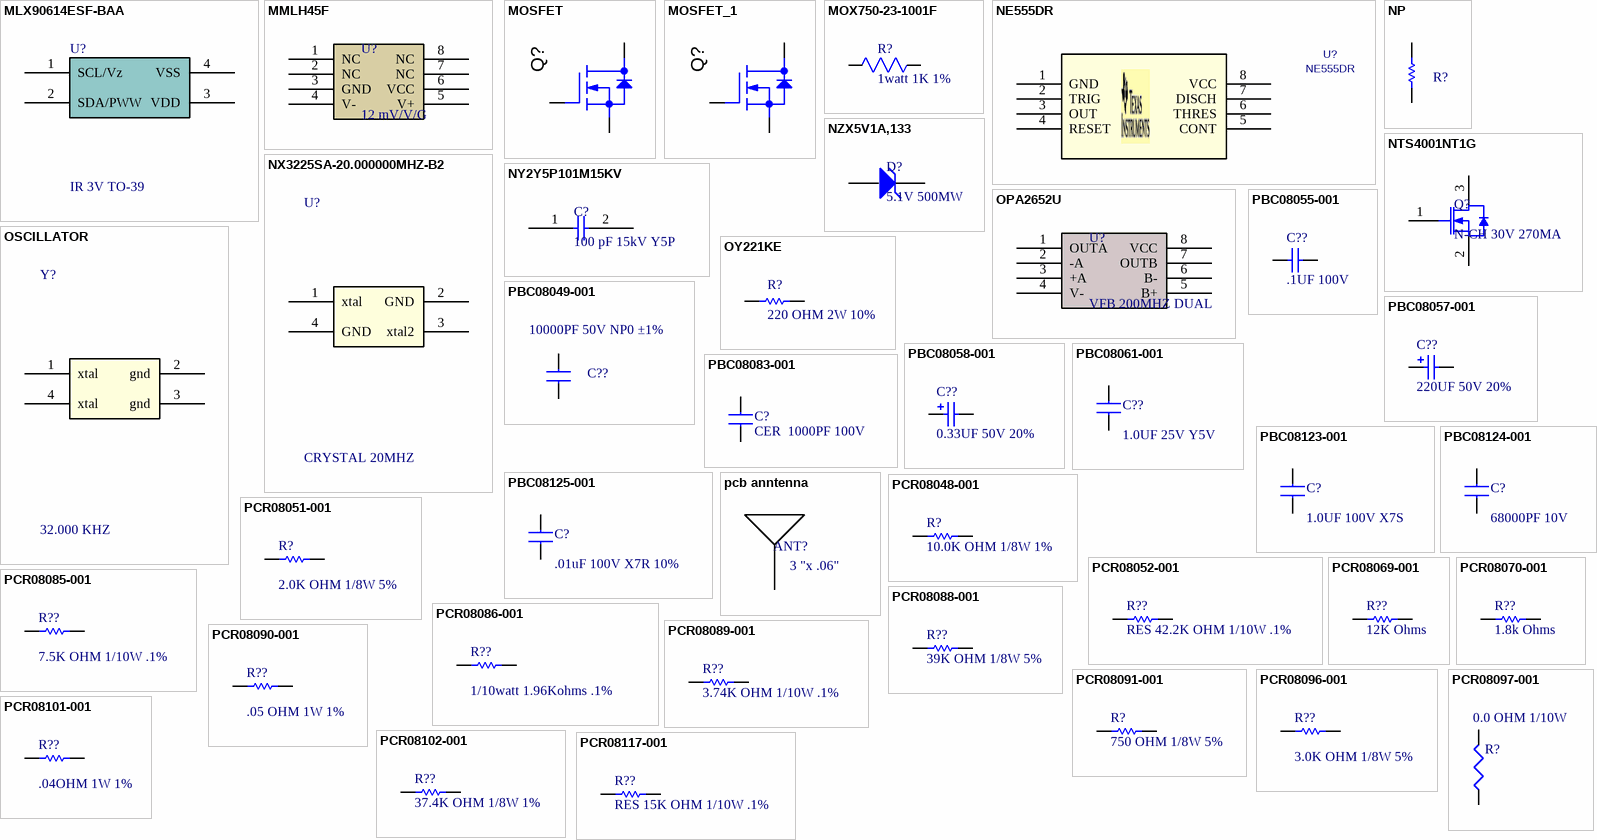
[diagram p5: symbols MLX90614ESF-BAA to PCR08117-001]

## MLX90614ESF-BAA
designator U?, comment IR 3V TO-39
IC THERMOMETER IR 3V TO-39; Part Number: MLX90614ESF-BAA; Manufacturer: Melexis Inc; HelpURL: C:\altium files\Datasheets\3901090614-1.pdf
footprint TO39
pins: 1 SCL/Vz, 2 SDA/PWW, 3 VDD, 4 VSS

## MMLH45F
designator U?, comment 12 mV/V/G
TMR  High Sensitivity: 12 mV/V/Oe;; Manufacturer: Multi Diminsion; Part Number: MMLH45F; HelpURL: C:\altium files\Datasheets\20111114174136709.pdf
footprint multi diminsional SOP8
pins: 1 NC, 2 NC, 3 GND, 4 V-, 5 V+, 6 VCC, 7 NC, 8 NC

## MOSFET
designator Q?, comment 30V 2A  (value not drawn)
MOSFET N-CH 30V 2A SOT23; Part Number: AO3424; Manufacturer: Alpha & Omega Semiconductor Inc; HelpURL: C:\altium files\Datasheets\AO3424.pdf
footprint SOT-23 - trans
pins: 1 GATE, 2 DRAIN, 3 SOURCE

## MOSFET_1
designator Q?, comment 30V 2A  (value not drawn)
MOSFET N-CH 30V 2A SOT23; Part Number: AO3424; Manufacturer: Alpha & Omega Semiconductor Inc; HelpURL: C:\altium files\Datasheets\AO3424.pdf
footprint SOT-23 - trans
pins: 1 GATE, 2 DRAIN, 3 SOURCE

## MOX750-23-1001F
designator R?, comment 1watt 1K 1%
1watt 1K 5kV 1%; Manufacturer: Ohmite; Number: MOX750-23-1001F
footprint 4.19mm x 22.35mm Ohmite (Mini-Mox 4.19mm x 22.35mm Ohmite)
pins: 1, 2

## NE555DR
designator U?
IC OSC SGL TIMER 100KHZ 8-SOIC; Manufacturer: Texas Instruments; Number: NE555DR
footprint SOIC 8 TI (8-SOIC (0.154", 3.90mm Width))
pins: 1 GND (power), 2 TRIG, 3 OUT, 4 RESET, 5 CONT, 6 THRES, 7 DISCH, 8 VCC (power)

## NP
designator R?  (value not drawn)
simulation model RESISTOR
footprint R0603 - NOS (Chip Resistor; Body 1.6 x 0.9 mm (LxW typ))
pins: 1, 2

## NTS4001NT1G
designator Q?, comment N-CH 30V 270MA
MOSFET N-CH 30V 270MA SOT-323; Manufacturer: ON Semiconductor; Number: NTS4001NT1G
footprint SOT-323 (On Semicondunctor Pin Config)
pins: 1 GATE, 2 SOURCE, 3 DRAIN

## NX3225SA-20.000000MHZ-B2
designator U?, comment CRYSTAL 20MHZ
CRYSTAL 20MHZ 7.2PF NX3225SA; Part Number: NX3225SA-20.000000MHZ-B2; Manufacturer: NDK; HelpURL: C:\altium files\Datasheets\225SA20.000000MHzB2.pdf
pins: 1 xtal, 2 GND, 3 xtal2, 4 GND

## NY2Y5P101M15KV
designator C?, comment 100 pF 15kV Y5P
100 pF 15kV Y5P  Ceramic Caps; Manufacturer: Dean Technology, Inc.; Number: NY2Y5P101M15KV
footprint Y5P Dean (100 pF 15kV Y5P  Ceramic Caps)
pins: 1, 2

## NZX5V1A,133
designator D?, comment 5.1V 500MW
DIODE ZENER 5.1V 500MW ALF2; Manufacturer: Nexperia USA Inc.; Number: NZX5V1A,133
footprint DO-35 (zenar diode  DO-35)
pins: 1 A, 2 K

## OPA2652U
designator U?, comment VFB 200MHZ DUAL
IC OPAMP VFB 200MHZ DUAL 8SOIC; Manufacturer: Texas Instruments; Part Number: OPA2652U; HelpURL: C:\altium files\Datasheets\OPA2652U.pdf
footprint SOIC-8 (.150 chasis)
pins: 1 OUTA, 2 -A, 3 +A, 4 V-, 5 B+, 6 B-, 7 OUTB, 8 VCC

## OSCILLATOR
designator Y?, comment 32.000 KHZ
CRYSTAL 32.000 KHZ 12.5PF SMD; Part Number: CM250C-32.000KAZF-UT; Manufacturer: Citizen Finetech Miyota; HelpURL: C:\altium files\Datasheets\CM250C-32.000KAZF-UT.jpg
footprint CM250C (0.311" L x 0.146" W)
pins: 1 xtal, 2 gnd, 3 gnd, 4 xtal

## OY221KE
designator R?, comment 220 OHM 2W 10%
RES 220 OHM 2W 10% AXIAL; Manufacturer: Ohmite; Number: OY221KE
footprint 7.00mm x 19.00mm 2W resistor (axial 2W Pulse Withstanding resistor)
pins: 1, 2

## PBC08049-001
designator C??, comment value 10000PF 50V NP0 ±1%  (hidden comment: 0.1uF)
CER 10000PF 50V NP0 ±1%; Part Number: 18125A103FAT2A; Manufacturer: AVX Corporation; Siemens Part Number: PBC08049-001
simulation model CAP
footprint 1812 (Chip Capacitor, Body 4.5x3.2mm, IPC High Density)
footprint C1812 (Chip Capacitor, Body 2.54x1.27mm, IPC High Density)
footprint C1812 (Chip Capacitor, Body 4.5x3.2mm, IPC Medium Density)
pins: 1, 2

## PBC08055-001
designator C??, comment value .1UF 100V  (hidden comment: X2Y .1UF 100V X7R)
Part Number: 101X18W104MV4E; Manufacturer: Johanson Dielectrics Inc; Siemens Part Number: PBC08055-001; HelpURL: G:\Altium\Library\DATASHEETS\JDI_X2Y_2010-06.pdf
simulation model CAP (Capacitor)
signal-integrity model Cap
footprint 1206C
pins: 1, 2

## PBC08057-001
designator C??, comment value 220UF 50V 20%  (hidden comment: CAP ALUM 22UF 100V 20% SMD)
ALUM 220UF 50V 20% SMD; Part Number: EEE-1HA221P; Manufacturer: Panasonic - ECG; Siemens Part Number: PBC08057-001
simulation model CAP (Capacitor)
signal-integrity model Cap Pol
footprint Panasonic Size F
footprint Panasonic EEE Size F
pins: 1, 2
1 alternate drawing of the same symbol

## PBC08058-001
designator C??, comment 0.33UF 50V 20%
CAP ALUM 0.33UF 50V 20% SMD; Part Number: EEE-1HAR33SR; Manufacturer: Panasonic - ECG; Siemens Part Number: PBC08058-001; HelpURL: http://industrial.panasonic.com/www-cgi/jvcr13pz.cgi?E+PZ+3+ABA0002+EEE2AA220UP+7+WW; Value: 0.33UF 50V 20%
simulation model CAP (Capacitor)
signal-integrity model Cap Pol
footprint Panasonic EEE Size B
pins: 1, 2
1 alternate drawing of the same symbol

## PBC08061-001
designator C??, comment 1.0UF 25V Y5V
CAP CER 1.0UF 25V Y5V 0805; Manufacturer: TDK Corporation; Part Number: C2012Y5V1E105Z/0.85; Siemens Part Number: PBC08061-001; Value: 1.0UF 25V Y5V
simulation model CAP
footprint C0805
pins: 1, 2

## PBC08083-001
designator C?, comment value CER  1000PF 100V  (hidden comment: 1000PF 100V)
CAP CER 1000PF 100V 10% X7R 0603; Manufacturer: Murata Electronics North America; Part Number: GRM188R72A102KA01D; Siemens Part Number: PBC08083-001
simulation model CAP
footprint C0603
pins: 1, 2

## PBC08123-001
designator C?, comment 1.0UF 100V X7S
CAP CER 1.0UF 100V X7S 0805; Manufacturer: TDK Corporation; Part Number: C2012X7S2A105K; Siemens Part Number: PBC08123-001; Value: 1.0UF 100V X7S
simulation model CAP
footprint C0805
pins: 1, 2

## PBC08124-001
designator C?, comment 68000PF 10V
CAP CER 68000PF 10V 0805 LOWDIST; Manufacturer: Taiyo Yuden; Part Number: LMK212SD683JG-T; Siemens Part Number: PBC08124-001; Value: 68000PF 10V
simulation model CAP
footprint C0805
pins: 1, 2

## PBC08125-001
designator C?, comment value .01uF 100V X7R 10%  (hidden comment: 10000PF 100V)
CAP CER 10000PF 100V X7R 10%0805; Manufacturer: TDK Corporation; Part Number: C2012X7R2A103K; Siemens Part Number: PBC08125-001
simulation model CAP
footprint C0805
pins: 1, 2

## pcb anntenna
designator ANT?, comment value 3 "x .06"  (hidden comment: pcb3 "x .06")
3 "x .06"
footprint pcb 3" .06"
pins: 1

## PCR08048-001
designator R?, comment 10.0K OHM 1/8W 1%
RES 10.0K OHM 1/8W 1% 0805 SMD; Part Number: ERJ-6ENF1002V; Manufacturer: Panasonic - ECG; Siemens Part Number: PCR08048-001; Value: 10.0K OHM 1/8W 1%
simulation model RESISTOR (Resistor)
signal-integrity model Res
footprint R0805
pins: 1, 2

## PCR08051-001
designator R?  value 2.0K OHM 1/8W 5%  (hidden comment: PCR08051-001)
RES 2.0K OHM 1/8W 5% 0805; Part Number: ERJ-6GEYJ202V; Manufacturer: Panasonic – ECG; Siemens Part Number: PCR08051-001
simulation model RESISTOR (Resistor)
signal-integrity model Res
footprint R0805
pins: 1, 2

## PCR08052-001
designator R??  value RES 42.2K OHM 1/10W .1%  (hidden comment: PCR08052-001)
RES 42.2K OHM 1/10W .1% 0603 SMD; Part Number: RG1608P-4222-B-T5; Manufacturer: Susumu; Siemens Part Number: PGR08052-001
simulation model RESISTOR (Resistor)
signal-integrity model Res
footprint Model Name (Footprint not found)
pins: 1, 2

## PCR08069-001
designator R??  value 12K Ohms  (hidden comment: PCR08069-001)
RES 12K OHM 1/8W 5% 0805 SMD; Part Number: ERJ-6GEYJ123V; Manufacturer: Panasonic - ECG; Siemens Part Number: PCR08069-001
simulation model RESISTOR (Resistor)
signal-integrity model Res
footprint R0805
pins: 1, 2

## PCR08070-001
designator R??  value 1.8k Ohms  (hidden comment: PCR08070-001)
RES 1.8K OHM 1/8W 5% 0805 SMD; Part Number: ERJ-6GEYJ182V; Manufacturer: Panasonic - ECG; Siemens Part Number: PCR08070-001
simulation model RESISTOR (Resistor)
footprint R0805
pins: 1, 2

## PCR08085-001
designator R??  value 7.5K OHM 1/10W .1%  (hidden comment: PCR08085-001)
7.5K OHM 1/10W .1%; Part Number: ERA-3AEB752V; Manufacturer: Panasonic - ECG; Siemens Part Number: PCR08085-001
simulation model RESISTOR (Resistor)
signal-integrity model Res
footprint R0603
pins: 1, 2

## PCR08086-001
designator R??  value 1/10watt 1.96Kohms .1%  (hidden comment: PCR08086-001)
1/10watt 1.96Kohms 1% 0603; Part Number: ERJ-3EKF1961V; Manufacturer: Panasonic - ECG; Siemens Part Number: PCR08086-001
simulation model RESISTOR (Resistor)
signal-integrity model Res
footprint R0603
pins: 1, 2

## PCR08088-001
designator R??  value 39K OHM 1/8W 5%  (hidden comment: PCR08088-001)
RES 39K OHM 1/8W 5% 0805 SMD; Part Number: ERJ-6GEYJ393V; Manufacturer: Panasonic - ECG; Siemens Part Number: PCR08088-001
simulation model RESISTOR (Resistor)
signal-integrity model Res
footprint R0805
pins: 1, 2

## PCR08089-001
designator R??  value 3.74K OHM 1/10W .1%  (hidden comment: PCR08089-001)
RES 3.74K OHM 1/10W .1% 0603 SMD; Part Number: RG1608P-3741-B-T5; Manufacturer: Susumu; Siemens Part Number: PCR08089-001
simulation model RESISTOR (Resistor)
signal-integrity model Res
footprint R0603
pins: 1, 2

## PCR08090-001
designator R??, comment .05 OHM 1W 1%
RES .05 OHM 1W 1% 2010 SMD; Part Number: WSL2010R0500FEA18; Manufacturer: Vishay/Dale; Siemens Part Number: PCR08090-001; Value: .05 OHM 1W 1%
simulation model RESISTOR (Resistor)
signal-integrity model Res
footprint R2010 Current Sense
pins: 1, 2

## PCR08091-001
designator R?  value 750 OHM 1/8W 5%  (hidden comment: PCR08091-001)
RES 750 OHM 1/8W 5% 0805 SMD; Part Number: ERJ-6GEYJ751V; Manufacturer: Panasonic - ECG; Siemens Part Number: PCR08091-001
simulation model RESISTOR (Resistor)
signal-integrity model Res
footprint R0805
pins: 1, 2

## PCR08096-001
designator R??  value 3.0K OHM 1/8W 5%  (hidden comment: PCR08096-001)
3.0K OHM 1/8W 5%  0805 SMD; Part Number: ERJ-6GEYJ302V; Manufacturer: Panasonic - ECG; Siemens Part Number: PCR08096-001
simulation model RESISTOR (Resistor)
signal-integrity model Res
footprint R0805
footprint R0603
pins: 1, 2

## PCR08097-001
designator R?, comment 0.0 OHM 1/10W
RES 0.0 OHM 1/10W 0603 SMD; Part Number: ERJ-3GEY0R00V; Manufacturer: Panasonic - ECG
footprint R0603 - NOS (Chip Resistor; Body 1.6 x 0.9 mm (LxW typ))
footprint R0805
footprint R0603
pins: 1 TOP, 2 BOT

## PCR08101-001
designator R??  value .04OHM 1W 1%  (hidden comment: PCR08101-001)
04OHM 1W 1% 2010; Part Number: CSRN2010FK40L0; Manufacturer: Stackpole Electronics Inc; Siemens Part Number: PCR08101-001
simulation model RESISTOR (Resistor)
signal-integrity model Res
footprint R2010 Current Sense
pins: 1, 2